# Altium schematic symbol library dungvh03-CERN_Connectors.SchLib: 576 symbols (part 1 of 8)
Pins are listed as number, name and electrical type; pins without a type are passive.

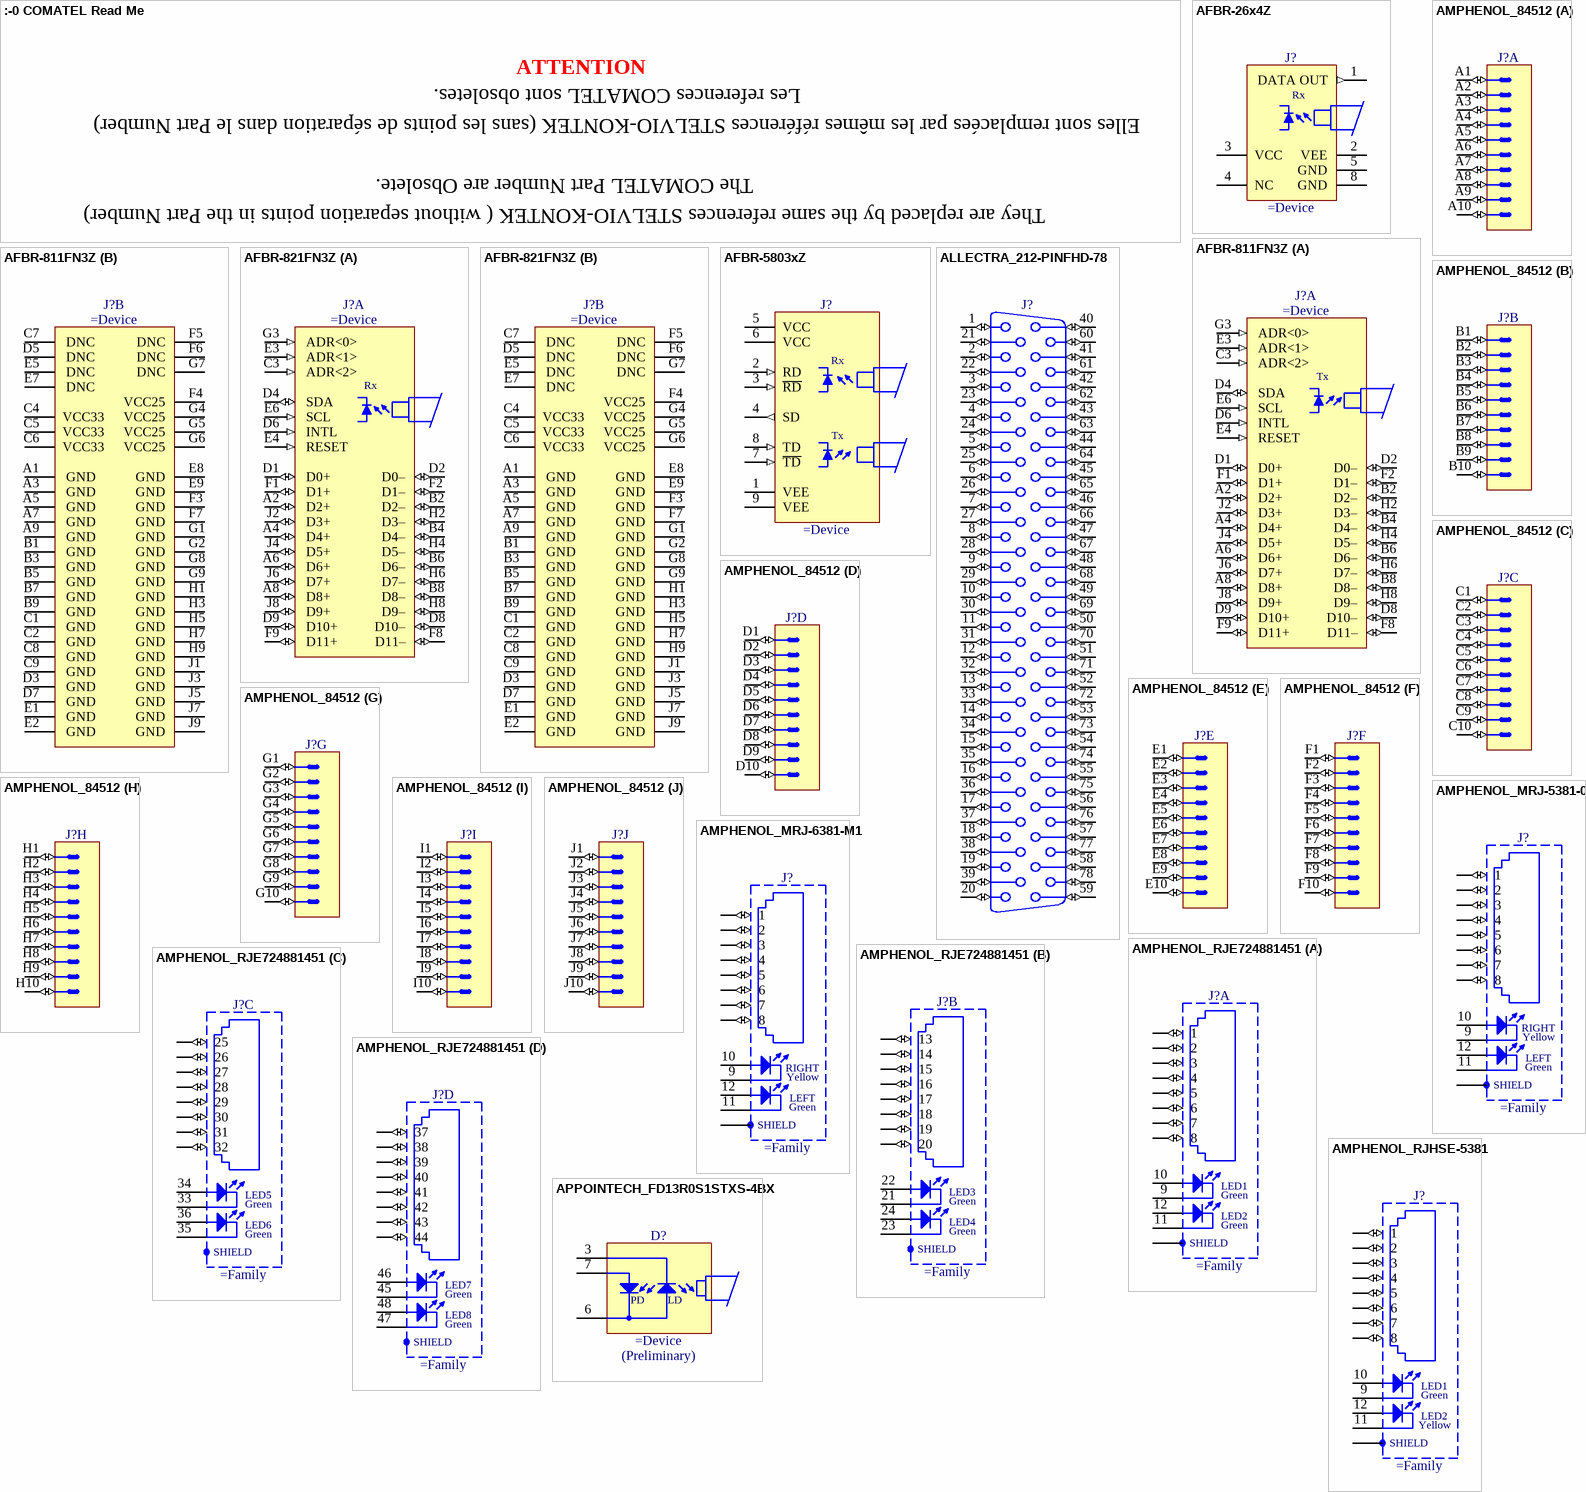
[diagram p0: symbols :-0 COMATEL Read Me to APPOINTECH_FD13R0S1STXS-4BX]

## :-0 COMATEL Read Me
designator ATTENTION
Test Point
text: Les references COMATEL sont obsoletes.; Elles sont remplacées par les mêmes références STELVIO-KONTEK (sans les points de séparation dans le Part Number); The COMATEL Part Number are Obsolete.; They are replaced by the same references STELVIO-KONTEK ( without separation points in the Part Number)

## AFBR-26x4Z
designator J?
DC-50MBd Versatile Link Fiber Optic Receiver for 1 mm POF and 200 µm PCS
pins: 1 DATA OUT (out), 2 VEE (power), 3 VCC (power), 4 NC, 5 GND (power), 8 GND (power)
text: Rx

## AFBR-811FN3Z
designator J?
HFBR-0500Z Series, Fiber Optic Transmitter
part A pins: A2  D2+ (io), A4  D4+ (io), A6  D6+ (io), A8  D8+ (io), B2 D2– (io), B4 D4– (io), B6 D6– (io), B8 D8– (io), C3  ADR<2> (in), D1  D0+ (io), D2 D0– (io), D4  SDA (io), D6  INTL (in), D8 D10– (io), D9  D10+ (io), E3  ADR<1> (in), E4  RESET (in), E6  SCL (in), F1  D1+ (io), F2 D1– (io), F8 D11– (io), F9  D11+ (io), G3  ADR<0> (in), H2 D3– (io), H4 D5– (io), H6 D7– (io), H8 D9– (io), J2  D3+ (io), J4  D5+ (io), J6  D7+ (io), J8  D9+ (io)
part B pins: A1  GND (power), A3  GND (power), A5  GND (power), A7  GND (power), A9  GND (power), B1  GND (power), B3  GND (power), B5  GND (power), B7  GND (power), B9  GND (power), C1  GND (power), C2  GND (power), C4 VCC33 (power), C5 VCC33 (power), C6 VCC33 (power), C7  DNC, C8  GND (power), C9  GND (power), D3  GND (power), D5  DNC, D7  GND (power), E1  GND (power), E2  GND (power), E5  DNC, E7  DNC, E8  GND (power), E9  GND (power), F3  GND (power), F4 VCC25 (power), F5  DNC, F6  DNC, F7  GND (power), G1  GND (power), G2  GND (power), G4 VCC25 (power), G5 VCC25 (power), G6 VCC25 (power), G7  DNC, G8  GND (power), G9  GND (power), H1  GND (power), H3  GND (power), H5  GND (power), H7  GND (power), H9  GND (power), J1  GND (power), J3  GND (power), J5  GND (power), J7  GND (power), J9  GND (power)
part A text: Tx

## AFBR-821FN3Z
designator J?
10 Gbps/Channel, 850 nm Fiber Optic Receiver AFBR-821XX3Z Series
part A pins: A2  D2+ (io), A4  D4+ (io), A6  D6+ (io), A8  D8+ (io), B2 D2– (io), B4 D4– (io), B6 D6– (io), B8 D8– (io), C3  ADR<2> (in), D1  D0+ (io), D2 D0– (io), D4  SDA (io), D6  INTL (in), D8 D10– (io), D9  D10+ (io), E3  ADR<1> (in), E4  RESET (in), E6  SCL (in), F1  D1+ (io), F2 D1– (io), F8 D11– (io), F9  D11+ (io), G3  ADR<0> (in), H2 D3– (io), H4 D5– (io), H6 D7– (io), H8 D9– (io), J2  D3+ (io), J4  D5+ (io), J6  D7+ (io), J8  D9+ (io)
part B pins: A1  GND (power), A3  GND (power), A5  GND (power), A7  GND (power), A9  GND (power), B1  GND (power), B3  GND (power), B5  GND (power), B7  GND (power), B9  GND (power), C1  GND (power), C2  GND (power), C4 VCC33 (power), C5 VCC33 (power), C6 VCC33 (power), C7  DNC, C8  GND (power), C9  GND (power), D3  GND (power), D5  DNC, D7  GND (power), E1  GND (power), E2  GND (power), E5  DNC, E7  DNC, E8  GND (power), E9  GND (power), F3  GND (power), F4 VCC25 (power), F5  DNC, F6  DNC, F7  GND (power), G1  GND (power), G2  GND (power), G4 VCC25 (power), G5 VCC25 (power), G6 VCC25 (power), G7  DNC, G8  GND (power), G9  GND (power), H1  GND (power), H3  GND (power), H5  GND (power), H7  GND (power), H9  GND (power), J1  GND (power), J3  GND (power), J5  GND (power), J7  GND (power), J9  GND (power)
part A text: Rx

## AFBR-5803xZ
designator J?
AFBR-5800Z Series, FDDI, 100 Mb/s ATM, Fast Ethernet Transceivers
pins: 1 VEE (power), 2 RD (in), 3 ~{RD} (in), 4 SD (out), 5 VCC (power), 6 VCC (power), 7 ~{TD} (in), 8 TD (in), 9 VEE (power)
text: Rx; Tx

## ALLECTRA_212-PINFHD-78
designator J?
Connector D-sub 78 Female
pins: 1 (io), 2 (io), 3 (io), 4 (io), 5 (io), 6 (io), 7 (io), 8 (io), 9 (io), 10 (io), 11 (io), 12 (io), 13 (io), 14 (io), 15 (io), 16 (io), 17 (io), 18 (io), 19 (io), 20 (io), 21 (io), 22 (io), 23 (io), 24 (io), 25 (io), 26 (io), 27 (io), 28 (io), 29 (io), 30 (io), 31 (io), 32 (io), 33 (io), 34 (io), 35 (io), 36 (io), 37 (io), 38 (io), 39 (io), 40 (io), 41 (io), 42 (io), 43 (io), 44 (io), 45 (io), 46 (io), 47 (io), 48 (io), 49 (io), 50 (io), 51 (io), 52 (io), 53 (io), 54 (io), 55 (io), 56 (io), 57 (io), 58 (io), 59 (io), 60 (io), 61 (io), 62 (io), 63 (io), 64 (io), 65 (io), 66 (io), 67 (io), 68 (io), 69 (io), 70 (io), 71 (io), 72 (io), 73 (io), 74 (io), 75 (io), 76 (io), 77 (io), 78 (io)

## AMPHENOL_84512
designator J?
100 Contacts, MEG-Array 10x10 BGA Connector
part A pins: A1 (io), A2 (io), A3 (io), A4 (io), A5 (io), A6 (io), A7 (io), A8 (io), A9 (io), A10 (io)
part B pins: B1 (io), B2 (io), B3 (io), B4 (io), B5 (io), B6 (io), B7 (io), B8 (io), B9 (io), B10 (io)
part C pins: C1 (io), C2 (io), C3 (io), C4 (io), C5 (io), C6 (io), C7 (io), C8 (io), C9 (io), C10 (io)
part D pins: D1 1 (io), D2 2 (io), D3 3 (io), D4 4 (io), D5 5 (io), D6 6 (io), D7 7 (io), D8 8 (io), D9 b9 (io), D10 b10 (io)
part E pins: E1 (io), E2 (io), E3 (io), E4 (io), E5 (io), E6 (io), E7 (io), E8 (io), E9 (io), E10 (io)
part F pins: F1 (io), F2 (io), F3 (io), F4 (io), F5 (io), F6 (io), F7 (io), F8 (io), F9 (io), F10 (io)
part G pins: G1 (io), G2 (io), G3 (io), G4 (io), G5 (io), G6 (io), G7 (io), G8 (io), G9 (io), G10 (io)
part H pins: H1 (io), H2 (io), H3 (io), H4 (io), H5 (io), H6 (io), H7 (io), H8 (io), H9 (io), H10 (io)
part I pins: I1 (io), I2 (io), I3 (io), I4 (io), I5 (io), I6 (io), I7 (io), I8 (io), I9 (io), I10 (io)
part J pins: J1 (io), J2 (io), J3 (io), J4 (io), J5 (io), J6 (io), J7 (io), J8 (io), J9 (io), J10 (io)

## AMPHENOL_MRJ-5381-01
designator J?
1 Port, 8 Positions, CAT5 RJ45 Modular Connector With Yellow And Green LEDs
pins: 1 (io), 2 (io), 3 (io), 4 (io), 5 (io), 6 (io), 7 (io), 8 (io), 9 CLED1, 10 ALED1, 11 CLED2, 12 ALED2, SHIELD
text: RIGHT; Yellow; LEFT; Green

## AMPHENOL_MRJ-6381-M1
designator J?
1 Port, 8 Contacts, Dust Tight Waterproof IP67, Right Angle CAT5 Filtered RJ45 Modular Jack With Yellow And Green LEDs, Series MRJ
pins: 1 (io), 2 (io), 3 (io), 4 (io), 5 (io), 6 (io), 7 (io), 8 (io), 9 CLED1, 10 ALED1, 11 CLED2, 12 ALED2, SHIELD
text: RIGHT; Yellow; LEFT; Green

## AMPHENOL_RJE724881451
designator J?
4 Port, 8 Positions, RJ45 With Shield And Green/Green Leds
part A pins: 1 (io), 2 (io), 3 (io), 4 (io), 5 (io), 6 (io), 7 (io), 8 (io), 9 CLED1, 10 ALED1, 11 CLED2, 12 ALED2, SHIELD
part B pins: 13 (io), 14 (io), 15 (io), 16 (io), 17 (io), 18 (io), 19 (io), 20 (io), 21 CLED3, 22 ALED3, 23 CLED4, 24 ALED4
part C pins: 25 (io), 26 (io), 27 (io), 28 (io), 29 (io), 30 (io), 31 (io), 32 (io), 33 CLED5, 34 ALED5, 35 CLED6, 36 ALED6
part D pins: 37 (io), 38 (io), 39 (io), 40 (io), 41 (io), 42 (io), 43 (io), 44 (io), 45 CLED7, 46 ALED7, 47 CLED8, 48 ALED8
part A text: LED1; Green; LED2
part B text: LED3; Green; LED4
part C text: LED5; Green; LED6
part D text: LED7; Green; LED8

## AMPHENOL_RJHSE-5381
designator J?
1 Port, 8 Positions, CAT5 RJ45 Modular Connector With Yellow And Green LEDs
pins: 1 (io), 2 (io), 3 (io), 4 (io), 5 (io), 6 (io), 7 (io), 8 (io), 9 CLED1, 10 ALED1, 11 ALED2, 12 CLED2, SHIELD
text: LED1; Green; LED2; Yellow

## APPOINTECH_FD13R0S1STXS-4BX
designator D?
1310nm FP Laser Diode SM Module (Sugar Cube ST Receptacle)
pins: 3 LDC, 6 LDPDAC, 7 PDA
text: PD; LD; (Preliminary)

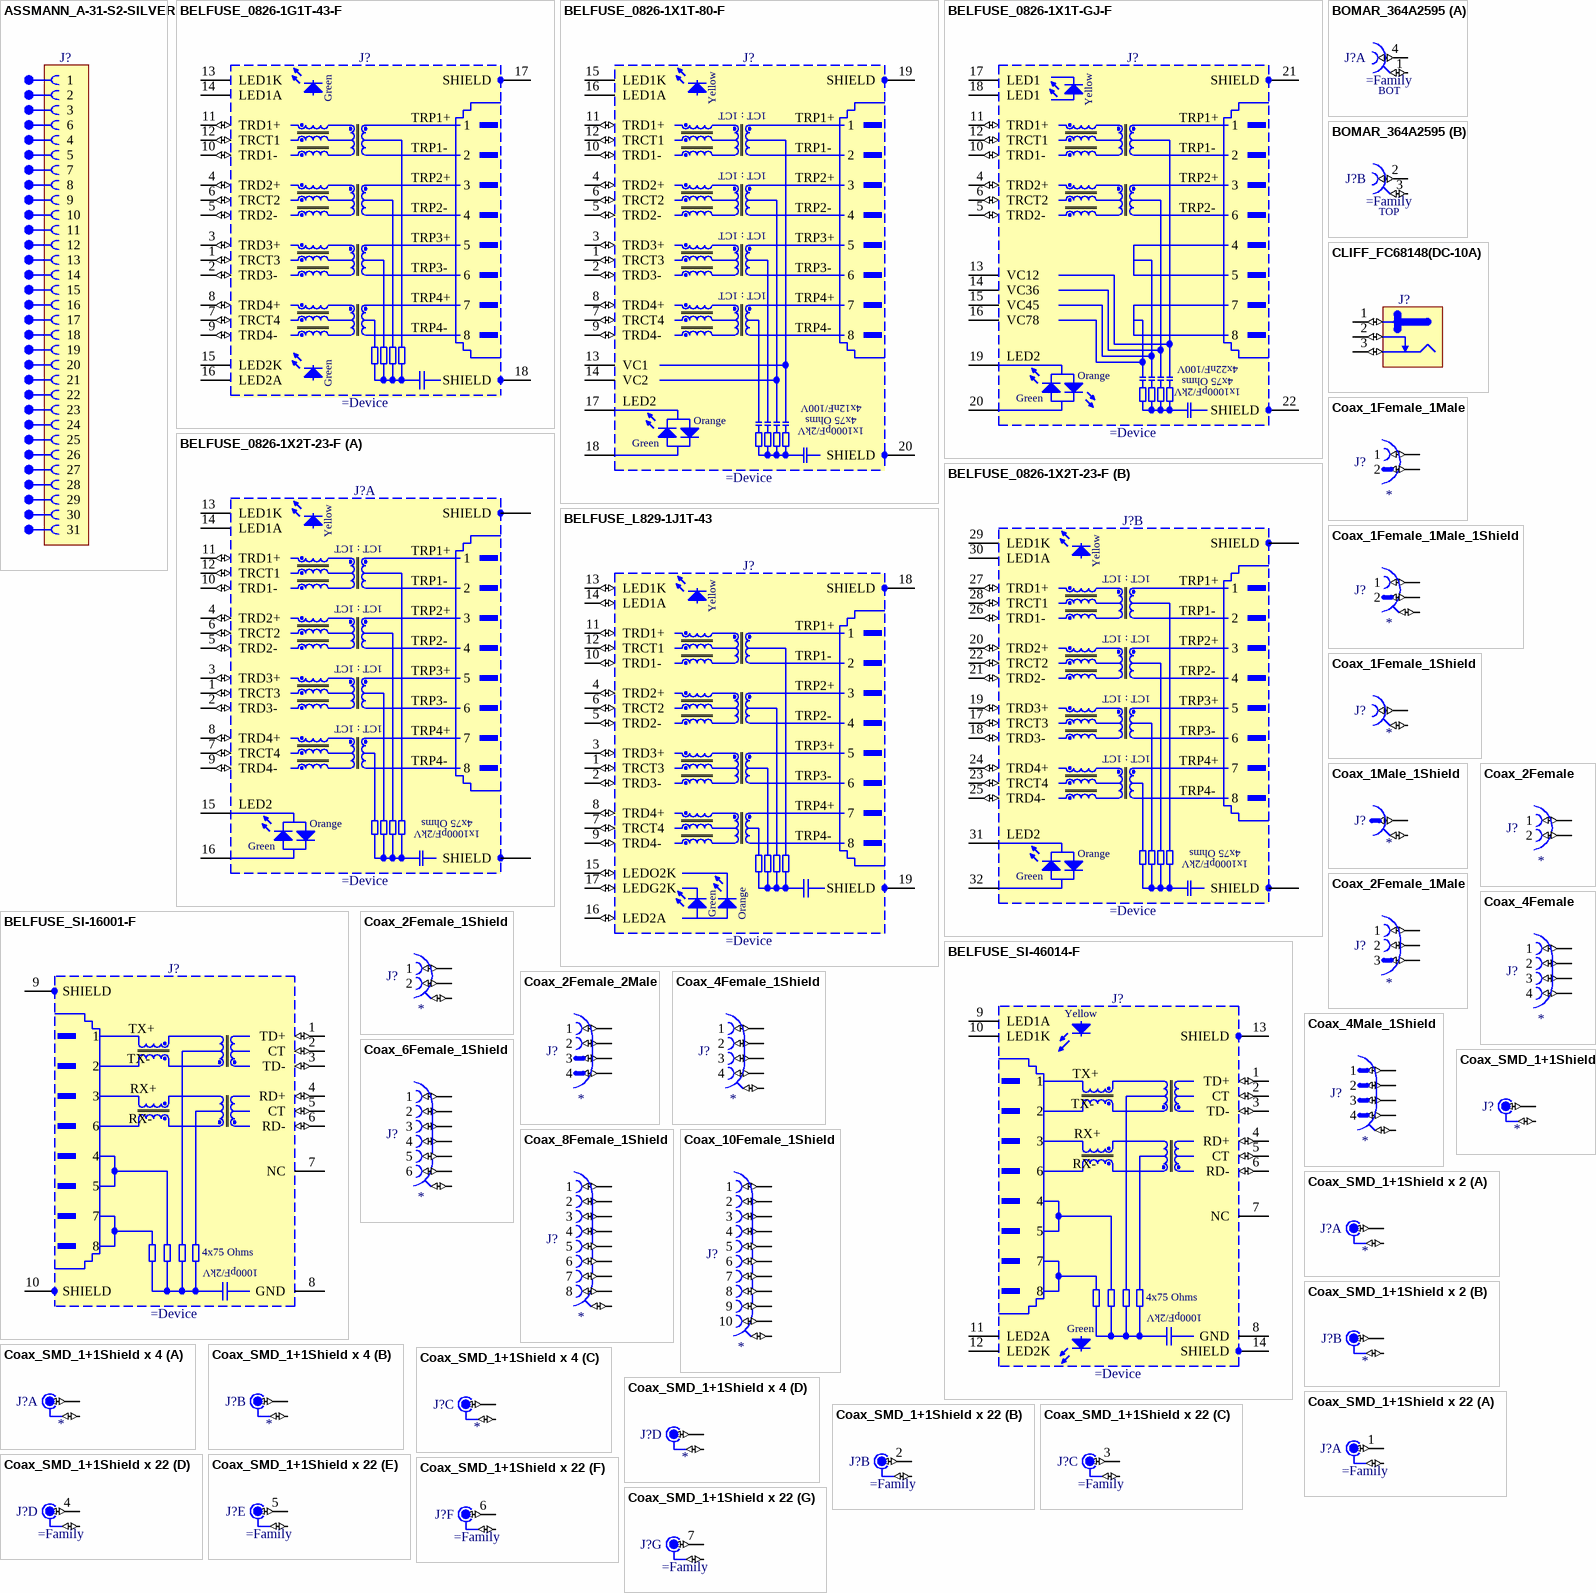
[diagram p1: symbols ASSMANN_A-31-S2-SILVER to Coax_SMD_1+1Shield x 22]

## ASSMANN_A-31-S2-SILVER
designator J?
text: 1; 2; 3; 6; 4; 5; 7; 8; 9; 10; 11; 12; 13; 14; 15; 16; 17; 18; 19; 20; 21; 22; 23; 24; 25; 26; 27; 28; 29; 30; 31

## BELFUSE_0826-1G1T-43-F
designator J?
1 Port, Green/Green LEDs, RJ45 10/100/1000 Gigabit Ethernet, MagJack Connector Module
pins: 1 TRCT3 (io), 2 TRD3- (io), 3 TRD3+ (io), 4 TRD2+ (io), 5 TRD2- (io), 6 TRCT2 (io), 7 TRCT4 (io), 8 TRD4+ (io), 9 TRD4- (io), 10 TRD1- (io), 11 TRD1+ (io), 12 TRCT1 (io), 13 LED1K, 14 LED1A, 15 LED2K, 16 LED2A, 17 SHIELD (power), 18 SHIELD (power)
text: Green; TRP1+; TRP1-; TRP2+; TRP2-; TRP3+; TRP3-; TRP4+; TRP4-

## BELFUSE_0826-1X1T-80-F
designator J?
MagJack 1000BaseT, PoE+, 1X1, OG/Y, Tab Up, RoHS
pins: 1 TRCT3 (io), 2 TRD3- (io), 3 TRD3+ (io), 4 TRD2+ (io), 5 TRD2- (io), 6 TRCT2 (io), 7 TRCT4 (io), 8 TRD4+ (io), 9 TRD4- (io), 10 TRD1- (io), 11 TRD1+ (io), 12 TRCT1 (io), 13 VC1, 14 VC2, 15 LED1K, 16 LED1A, 17 LED2, 18 LED2, 19 SHIELD (power), 20 SHIELD (power)
text: Yellow; 1CT : 1CT; TRP1+; TRP1-; TRP2+; TRP2-; TRP3+; TRP3-; TRP4+; TRP4-; 4x12nF/100V; Orange; 4x75 Ohms; 1x1000pF/2kV; Green

## BELFUSE_0826-1X1T-GJ-F
designator J?
MagJack 10/100BaseT, PoE+, 1X1, OG/Y, -40 to 85*C, Tab Up, RoHS
pins: 4 TRD2+ (io), 5 TRD2- (io), 6 TRCT2 (io), 10 TRD1- (io), 11 TRD1+ (io), 12 TRCT1 (io), 13 VC12, 14 VC36, 15 VC45, 16 VC78, 17 LED1, 18 LED1, 19 LED2, 20 LED2, 21 SHIELD (power), 22 SHIELD (power)
text: Yellow; TRP1+; 1; TRP1-; 2; TRP2+; 3; TRP2-; 7; 8; Orange; 4x22nF/100V; 4x75 Ohms; Green; 1x1000pF/2kV

## BELFUSE_0826-1X2T-23-F
designator J?
MagJack 1000BaseT, 1X2, OG/Y, Tab Up, RoHS
pins on every part: SHIELD (power), SHIELD (power)
part A pins: 1 TRCT3 (io), 2 TRD3- (io), 3 TRD3+ (io), 4 TRD2+ (io), 5 TRD2- (io), 6 TRCT2 (io), 7 TRCT4 (io), 8 TRD4+ (io), 9 TRD4- (io), 10 TRD1- (io), 11 TRD1+ (io), 12 TRCT1 (io), 13 LED1K, 14 LED1A, 15 LED2, 16 LED2
part B pins: 17 TRCT3 (io), 18 TRD3- (io), 19 TRD3+ (io), 20 TRD2+ (io), 21 TRD2- (io), 22 TRCT2 (io), 23 TRCT4 (io), 24 TRD4+ (io), 25 TRD4- (io), 26 TRD1- (io), 27 TRD1+ (io), 28 TRCT1 (io), 29 LED1K, 30 LED1A, 31 LED2, 32 LED2
part A text: Yellow; 1CT : 1CT; TRP1+; TRP1-; TRP2+; TRP2-; TRP3+; TRP3-; TRP4+; TRP4-; Orange; 4x75 Ohms; 1x1000pF/2kV; Green
part B text: Yellow; 1CT : 1CT; TRP1+; TRP1-; TRP2+; TRP2-; TRP3+; TRP3-; TRP4+; TRP4-; Orange; 4x75 Ohms; 1x1000pF/2kV; Green

## BELFUSE_L829-1J1T-43
designator J?
1 Port, RJ45, Gigabit Ethernet, MagJack Connector Module With Yellow And Green/Orange LEDs
pins: 1 TRCT3 (io), 2 TRD3- (io), 3 TRD3+ (io), 4 TRD2+ (io), 5 TRD2- (io), 6 TRCT2 (io), 7 TRCT4 (io), 8 TRD4+ (io), 9 TRD4- (io), 10 TRD1- (io), 11 TRD1+ (io), 12 TRCT1 (io), 13 LED1K (io), 14 LED1A (io), 15 LEDO2K (io), 16 LED2A (io), 17 LEDG2K (io), 18 SHIELD (power), 19 SHIELD (power)
text: Yellow; TRP1+; TRP1-; TRP2+; TRP2-; TRP3+; TRP3-; TRP4+; TRP4-; Green; Orange

## BELFUSE_SI-16001-F
designator J?
1 Port, Without LED, RJ45 10/100Base-T Ethernet, MagJack® Vertical Connector Module
pins: 1 TD+ (io), 2 CT (io), 3 TD- (io), 4 RD+ (io), 5 CT (io), 6 RD- (io), 7 NC, 8 GND (power), 9 SHIELD (power), 10 SHIELD (power)
text: TX+; TX-; RX+; RX-; 4x75 Ohms; 1000pF/2kV

## BELFUSE_SI-46014-F
designator J?
1 Port, Yellow/ Green LEDs, RJ45 10/100Base-T Ethernet, MagJack® Vertical Connector Module
pins: 1 TD+ (io), 2 CT (io), 3 TD- (io), 4 RD+ (io), 5 CT (io), 6 RD- (io), 7 NC, 8 GND (power), 9 LED1A, 10 LED1K, 11 LED2A, 12 LED2K, 13 SHIELD (power), 14 SHIELD (power)
text: Yellow; TX+; TX-; RX+; RX-; 4x75 Ohms; 1000pF/2kV; Green

## BOMAR_364A2595
designator J?
Dual Right Angle 50 Ohm BNC Jack, White Valox Case
part A pins: 1 (io), 4 (io)
part B pins: 2 (io), 3 (io)
part A text: BOT
part B text: TOP

## CLIFF_FC68148(DC-10A)
designator J?
12V /  5A, 2.1mm Diameter Pin, DC Power Socket With  Switch. DC10A Type
pins: 1 (io), 2 (io), 3 (io)

## Coax_1Female_1Male
designator J?
Coax_1Female_1Male (No Shield)
pins: 1 (io), 2 (io)

## Coax_1Female_1Male_1Shield
designator J?
pins: 1 (io), 2 (io), 3 (io)

## Coax_1Female_1Shield
designator J?
pins: 1 (io), 2 (io)

## Coax_1Male_1Shield
designator J?
pins: 1 (io), 2 (io)

## Coax_2Female
designator J?
Coax_2Female (No Shield)
pins: 1 (io), 2 (io)

## Coax_2Female_1Male
designator J?
pins: 1 (io), 2 (io), 3 (io)

## Coax_2Female_1Shield
designator J?
pins: 1 (io), 2 (io), 3 (io)

## Coax_2Female_2Male
designator J?
pins: 1 (io), 2 (io), 3 (io), 4 (io)

## Coax_4Female
designator J?
Coax_4Female (No Shield)
pins: 1 (io), 2 (io), 3 (io), 4 (io)

## Coax_4Female_1Shield
designator J?
pins: 1 (io), 2 (io), 3 (io), 4 (io), 5 (io)

## Coax_4Male_1Shield
designator J?
pins: 1 (io), 2 (io), 3 (io), 4 (io), 5 (io)

## Coax_6Female_1Shield
designator J?
Coax 6 Contacts Female + 1 Shield
pins: 1 (io), 2 (io), 3 (io), 4 (io), 5 (io), 6 (io), 7 (io)

## Coax_8Female_1Shield
designator J?
pins: 1 (io), 2 (io), 3 (io), 4 (io), 5 (io), 6 (io), 7 (io), 8 (io), 9 (io)

## Coax_10Female_1Shield
designator J?
pins: 1 (io), 2 (io), 3 (io), 4 (io), 5 (io), 6 (io), 7 (io), 8 (io), 9 (io), 10 (io), 11 (io)

## Coax_SMD_1+1Shield
designator J?
pins: 1 (io), 2 (io)

## Coax_SMD_1+1Shield x 2
designator J?
part A pins: 1 (io), 2 (io)
part B pins: 3 (io), 4 (io)

## Coax_SMD_1+1Shield x 4
designator J?
part A pins: 1 (io), 2 (io)
part B pins: 3 (io), 4 (io)
part C pins: 5 (io), 6 (io)
part D pins: 7 (io), 8 (io)

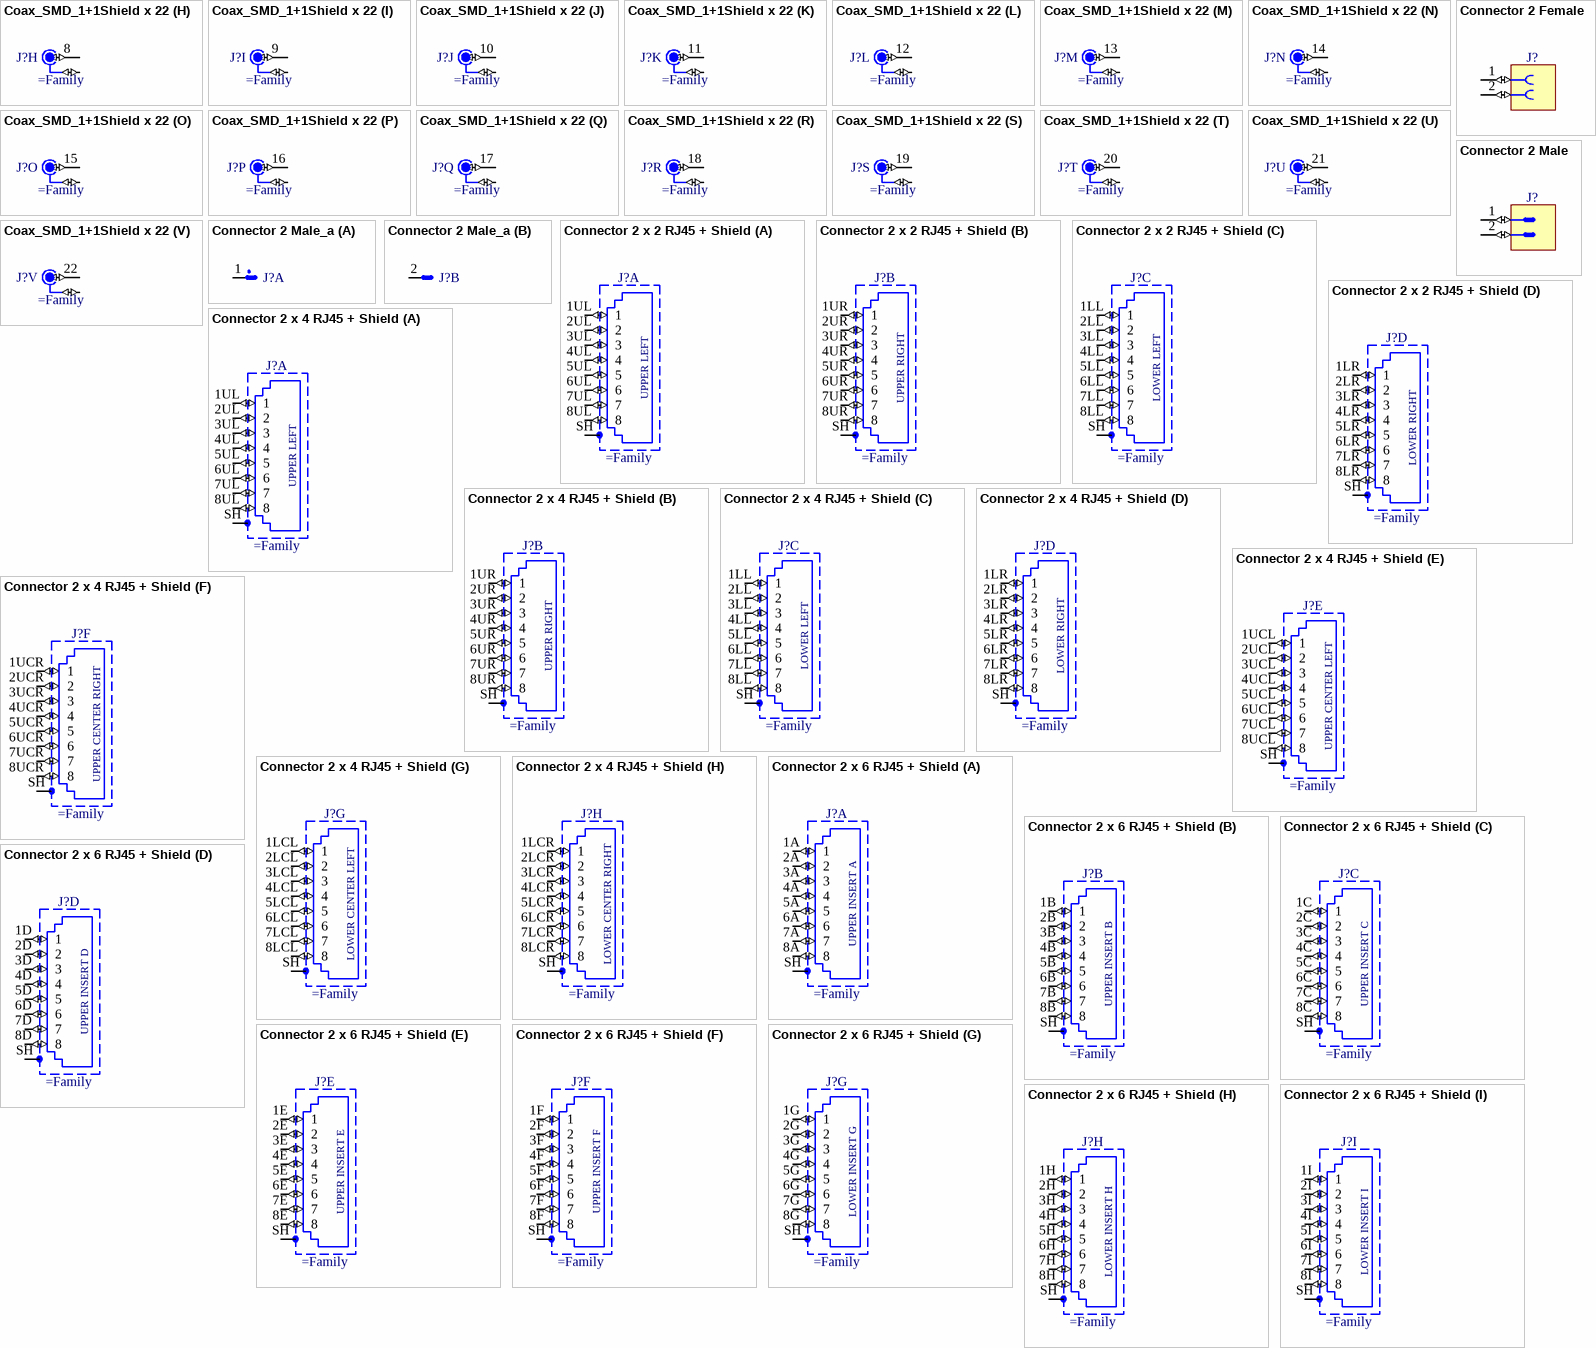
[diagram p2: symbols Coax_SMD_1+1Shield x 22 to Connector 2 x 6 RJ45 + Shield]

## Coax_SMD_1+1Shield x 22
designator J?
part A pins: 1 (io), G1 (io)
part B pins: 2 (io), G2 (io)
part C pins: 3 (io), G3 (io)
part D pins: 4 (io), G4 (io)
part E pins: 5 (io), G5 (io)
part F pins: 6 (io), G6 (io)
part G pins: 7 (io), G7 (io)
part H pins: 8 (io), G8 (io)
part I pins: 9 (io), G9 (io)
part J pins: 10 (io), G10 (io)
part K pins: 11 (io), G11 (io)
part L pins: 12 (io), G12 (io)
part M pins: 13 (io), G13 (io)
part N pins: 14 (io), G14 (io)
part O pins: 15 (io), G15 (io)
part P pins: 16 (io), G16 (io)
part Q pins: 17 (io), G17 (io)
part R pins: 18 (io), G18 (io)
part S pins: 19 (io), G19 (io)
part T pins: 20 (io), G20 (io)
part U pins: 21 (io), G21 (io)
part V pins: 22 (io), G22 (io)

## Connector 2 Female
designator J?
Connector 2 Female
pins: 1 (io), 2 (io)
1 alternate drawing of the same symbol

## Connector 2 Male
designator J?
Connector 2 Male
pins: 1 (io), 2 (io)
1 alternate drawing of the same symbol

## Connector 2 Male_a
designator J?
Connector 2 Male
part A pins: 1 (io)
part B pins: 2 (io)

## Connector 2 x 2 RJ45 + Shield
designator J?
Connector 2 x 2 RJ45 + Shield
pins on every part: SH 1
part A pins: 1UL 1 (io), 2UL 2 (io), 3UL 3 (io), 4UL 4 (io), 5UL 5 (io), 6UL 6 (io), 7UL 7 (io), 8UL 8 (io)
part B pins: 1UR 1 (io), 2UR 2 (io), 3UR 3 (io), 4UR 4 (io), 5UR 5 (io), 6UR 6 (io), 7UR 7 (io), 8UR 8 (io)
part C pins: 1LL 1 (io), 2LL 2 (io), 3LL 3 (io), 4LL 4 (io), 5LL 5 (io), 6LL 6 (io), 7LL 7 (io), 8LL 8 (io)
part D pins: 1LR 1 (io), 2LR 2 (io), 3LR 3 (io), 4LR 4 (io), 5LR 5 (io), 6LR 6 (io), 7LR 7 (io), 8LR 8 (io)
part A text: UPPER LEFT
part B text: UPPER RIGHT
part C text: LOWER LEFT
part D text: LOWER RIGHT

## Connector 2 x 4 RJ45 + Shield
designator J?
Connector 2 x 4 RJ45 + Shield
pins on every part: SH 1
part A pins: 1UL 1 (io), 2UL 2 (io), 3UL 3 (io), 4UL 4 (io), 5UL 5 (io), 6UL 6 (io), 7UL 7 (io), 8UL 8 (io)
part B pins: 1UR 1 (io), 2UR 2 (io), 3UR 3 (io), 4UR 4 (io), 5UR 5 (io), 6UR 6 (io), 7UR 7 (io), 8UR 8 (io)
part C pins: 1LL 1 (io), 2LL 2 (io), 3LL 3 (io), 4LL 4 (io), 5LL 5 (io), 6LL 6 (io), 7LL 7 (io), 8LL 8 (io)
part D pins: 1LR 1 (io), 2LR 2 (io), 3LR 3 (io), 4LR 4 (io), 5LR 5 (io), 6LR 6 (io), 7LR 7 (io), 8LR 8 (io)
part E pins: 1UCL 1 (io), 2UCL 2 (io), 3UCL 3 (io), 4UCL 4 (io), 5UCL 5 (io), 6UCL 6 (io), 7UCL 7 (io), 8UCL 8 (io)
part F pins: 1UCR 1 (io), 2UCR 2 (io), 3UCR 3 (io), 4UCR 4 (io), 5UCR 5 (io), 6UCR 6 (io), 7UCR 7 (io), 8UCR 8 (io)
part G pins: 1LCL 1 (io), 2LCL 2 (io), 3LCL 3 (io), 4LCL 4 (io), 5LCL 5 (io), 6LCL 6 (io), 7LCL 7 (io), 8LCL 8 (io)
part H pins: 1LCR 1 (io), 2LCR 2 (io), 3LCR 3 (io), 4LCR 4 (io), 5LCR 5 (io), 6LCR 6 (io), 7LCR 7 (io), 8LCR 8 (io)
part A text: UPPER LEFT
part B text: UPPER RIGHT
part C text: LOWER LEFT
part D text: LOWER RIGHT
part E text: UPPER CENTER LEFT
part F text: UPPER CENTER RIGHT
part G text: LOWER CENTER LEFT
part H text: LOWER CENTER RIGHT

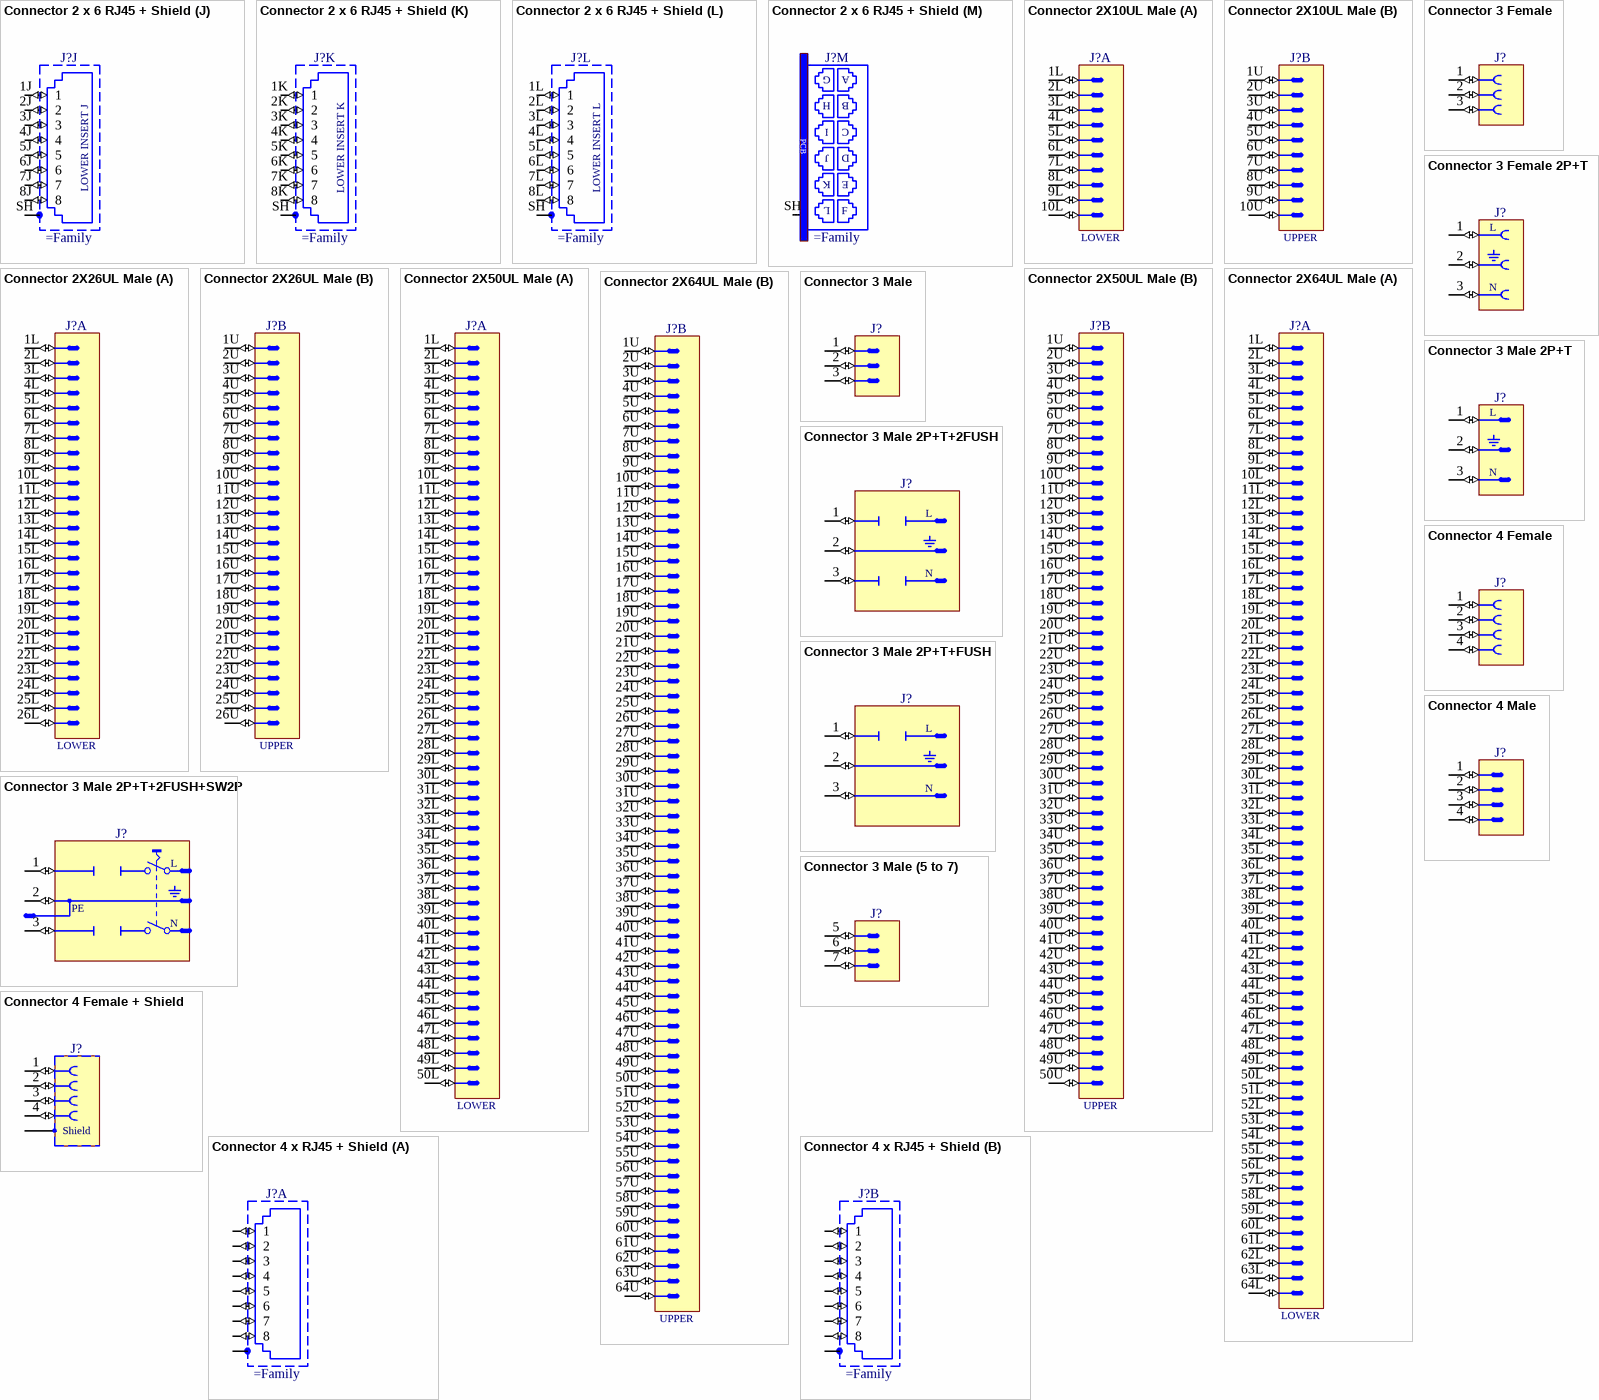
[diagram p3: symbols Connector 2 x 6 RJ45 + Shield to Connector 4 x RJ45 + Shield]

## Connector 2 x 6 RJ45 + Shield
designator J?
Connector 2 x 6 RJ45 + Shield
pins on every part: SH 1
part A pins: 1A 1 (io), 2A 2 (io), 3A 3 (io), 4A 4 (io), 5A 5 (io), 6A 6 (io), 7A 7 (io), 8A 8 (io)
part B pins: 1B 1 (io), 2B 2 (io), 3B 3 (io), 4B 4 (io), 5B 5 (io), 6B 6 (io), 7B 7 (io), 8B 8 (io)
part C pins: 1C 1 (io), 2C 2 (io), 3C 3 (io), 4C 4 (io), 5C 5 (io), 6C 6 (io), 7C 7 (io), 8C 8 (io)
part D pins: 1D 1 (io), 2D 2 (io), 3D 3 (io), 4D 4 (io), 5D 5 (io), 6D 6 (io), 7D 7 (io), 8D 8 (io)
part E pins: 1E 1 (io), 2E 2 (io), 3E 3 (io), 4E 4 (io), 5E 5 (io), 6E 6 (io), 7E 7 (io), 8E 8 (io)
part F pins: 1F 1 (io), 2F 2 (io), 3F 3 (io), 4F 4 (io), 5F 5 (io), 6F 6 (io), 7F 7 (io), 8F 8 (io)
part G pins: 1G 1 (io), 2G 2 (io), 3G 3 (io), 4G 4 (io), 5G 5 (io), 6G 6 (io), 7G 7 (io), 8G 8 (io)
part H pins: 1H 1 (io), 2H 2 (io), 3H 3 (io), 4H 4 (io), 5H 5 (io), 6H 6 (io), 7H 7 (io), 8H 8 (io)
part I pins: 1I 1 (io), 2I 2 (io), 3I 3 (io), 4I 4 (io), 5I 5 (io), 6I 6 (io), 7I 7 (io), 8I 8 (io)
part J pins: 1J 1 (io), 2J 2 (io), 3J 3 (io), 4J 4 (io), 5J 5 (io), 6J 6 (io), 7J 7 (io), 8J 8 (io)
part K pins: 1K 1 (io), 2K 2 (io), 3K 3 (io), 4K 4 (io), 5K 5 (io), 6K 6 (io), 7K 7 (io), 8K 8 (io)
part L pins: 1L 1 (io), 2L 2 (io), 3L 3 (io), 4L 4 (io), 5L 5 (io), 6L 6 (io), 7L 7 (io), 8L 8 (io)
part A text: UPPER INSERT A
part B text: UPPER INSERT B
part C text: UPPER INSERT C
part D text: UPPER INSERT D
part E text: UPPER INSERT E
part F text: UPPER INSERT F
part G text: LOWER INSERT G
part H text: LOWER INSERT H
part I text: LOWER INSERT I
part J text: LOWER INSERT J
part K text: LOWER INSERT K
part L text: LOWER INSERT L
part M text: G; A; H; B; I; C; PCB; J; D; K; E; L; F

## Connector 2X10UL Male
designator J?
Dual Stacked 10 Contact Male Connector
part A pins: 1L (io), 2L (io), 3L (io), 4L (io), 5L (io), 6L (io), 7L (io), 8L (io), 9L (io), 10L (io)
part B pins: 1U (io), 2U (io), 3U (io), 4U (io), 5U (io), 6U (io), 7U (io), 8U (io), 9U (io), 10U (io)
part A text: LOWER
part B text: UPPER

## Connector 2X26UL Male
designator J?
Dual Stacked 26 Contact Male Connector
part A pins: 1L (io), 2L (io), 3L (io), 4L (io), 5L (io), 6L (io), 7L (io), 8L (io), 9L (io), 10L (io), 11L (io), 12L (io), 13L (io), 14L (io), 15L (io), 16L (io), 17L (io), 18L (io), 19L (io), 20L (io), 21L (io), 22L (io), 23L (io), 24L (io), 25L (io), 26L (io)
part B pins: 1U (io), 2U (io), 3U (io), 4U (io), 5U (io), 6U (io), 7U (io), 8U (io), 9U (io), 10U (io), 11U (io), 12U (io), 13U (io), 14U (io), 15U (io), 16U (io), 17U (io), 18U (io), 19U (io), 20U (io), 21U (io), 22U (io), 23U (io), 24U (io), 25U (io), 26U (io)
part A text: LOWER
part B text: UPPER

## Connector 2X50UL Male
designator J?
Dual Stacked 50 Contact Male Connector
part A pins: 1L (io), 2L (io), 3L (io), 4L (io), 5L (io), 6L (io), 7L (io), 8L (io), 9L (io), 10L (io), 11L (io), 12L (io), 13L (io), 14L (io), 15L (io), 16L (io), 17L (io), 18L (io), 19L (io), 20L (io), 21L (io), 22L (io), 23L (io), 24L (io), 25L (io), 26L (io), 27L (io), 28L (io), 29L (io), 30L (io), 31L (io), 32L (io), 33L (io), 34L (io), 35L (io), 36L (io), 37L (io), 38L (io), 39L (io), 40L (io), 41L (io), 42L (io), 43L (io), 44L (io), 45L (io), 46L (io), 47L (io), 48L (io), 49L (io), 50L (io)
part B pins: 1U (io), 2U (io), 3U (io), 4U (io), 5U (io), 6U (io), 7U (io), 8U (io), 9U (io), 10U (io), 11U (io), 12U (io), 13U (io), 14U (io), 15U (io), 16U (io), 17U (io), 18U (io), 19U (io), 20U (io), 21U (io), 22U (io), 23U (io), 24U (io), 25U (io), 26U (io), 27U (io), 28U (io), 29U (io), 30U (io), 31U (io), 32U (io), 33U (io), 34U (io), 35U (io), 36U (io), 37U (io), 38U (io), 39U (io), 40U (io), 41U (io), 42U (io), 43U (io), 44U (io), 45U (io), 46U (io), 47U (io), 48U (io), 49U (io), 50U (io)
part A text: LOWER
part B text: UPPER

## Connector 2X64UL Male
designator J?
Dual Stacked 64 Contact Male Connector
part A pins: 1L (io), 2L (io), 3L (io), 4L (io), 5L (io), 6L (io), 7L (io), 8L (io), 9L (io), 10L (io), 11L (io), 12L (io), 13L (io), 14L (io), 15L (io), 16L (io), 17L (io), 18L (io), 19L (io), 20L (io), 21L (io), 22L (io), 23L (io), 24L (io), 25L (io), 26L (io), 27L (io), 28L (io), 29L (io), 30L (io), 31L (io), 32L (io), 33L (io), 34L (io), 35L (io), 36L (io), 37L (io), 38L (io), 39L (io), 40L (io), 41L (io), 42L (io), 43L (io), 44L (io), 45L (io), 46L (io), 47L (io), 48L (io), 49L (io), 50L (io), 51L (io), 52L (io), 53L (io), 54L (io), 55L (io), 56L (io), 57L (io), 58L (io), 59L (io), 60L (io), 61L (io), 62L (io), 63L (io), 64L (io)
part B pins: 1U (io), 2U (io), 3U (io), 4U (io), 5U (io), 6U (io), 7U (io), 8U (io), 9U (io), 10U (io), 11U (io), 12U (io), 13U (io), 14U (io), 15U (io), 16U (io), 17U (io), 18U (io), 19U (io), 20U (io), 21U (io), 22U (io), 23U (io), 24U (io), 25U (io), 26U (io), 27U (io), 28U (io), 29U (io), 30U (io), 31U (io), 32U (io), 33U (io), 34U (io), 35U (io), 36U (io), 37U (io), 38U (io), 39U (io), 40U (io), 41U (io), 42U (io), 43U (io), 44U (io), 45U (io), 46U (io), 47U (io), 48U (io), 49U (io), 50U (io), 51U (io), 52U (io), 53U (io), 54U (io), 55U (io), 56U (io), 57U (io), 58U (io), 59U (io), 60U (io), 61U (io), 62U (io), 63U (io), 64U (io)
part A text: LOWER
part B text: UPPER

## Connector 3 Female
designator J?
Connector 3 Female
pins: 1 (io), 2 (io), 3 (io)
1 alternate drawing of the same symbol

## Connector 3 Female 2P+T
designator J?
Connector 3 Female 2P+T
pins: 1 (io), 2 (io), 3 (io)
text: L; N

## Connector 3 Male
designator J?
Connector 3 Male
pins: 1 (io), 2 (io), 3 (io)
1 alternate drawing of the same symbol

## Connector 3 Male 2P+T
designator J?
Connector 3 Male 2P+T
pins: 1 (io), 2 (io), 3 (io)
text: L; N

## Connector 3 Male 2P+T+2FUSH
designator J?
Connector 3 Male 2P+ 2 Fuse Holder
pins: 1 (io), 2 (io), 3 (io)
text: L; N

## Connector 3 Male 2P+T+2FUSH+SW2P
designator J?
Connector 3 Male 2P+ 2 Fuse Holder + Line Switch 2 Poles
pins: 1 (io), 2 (io), 3 (io)
text: L; PE; N

## Connector 3 Male 2P+T+FUSH
designator J?
Connector 3 Male 2P+ Fuse Holder
pins: 1 (io), 2 (io), 3 (io)
text: L; N

## Connector 3 Male (5 to 7)
designator J?
Connector 3 Male
pins: 5 (io), 6 (io), 7 (io)

## Connector 4 Female
designator J?
Connector 4 Female
pins: 1 (io), 2 (io), 3 (io), 4 (io)
1 alternate drawing of the same symbol

## Connector 4 Female + Shield
designator J?
40 Contacts, 5 Rows (a,b,c,d,e) of 8 positions + 4 Shield Contacts, Pitch 2 mm,  Press-Fit, Right Angle Ermet B8 CompactPCI Express Female Connector
pins: 1 (io), 2 (io), 3 (io), 4 (io), SHIELD
text: Shield

## Connector 4 Male
designator J?
Connector 4 Male
pins: 1 (io), 2 (io), 3 (io), 4 (io)
1 alternate drawing of the same symbol

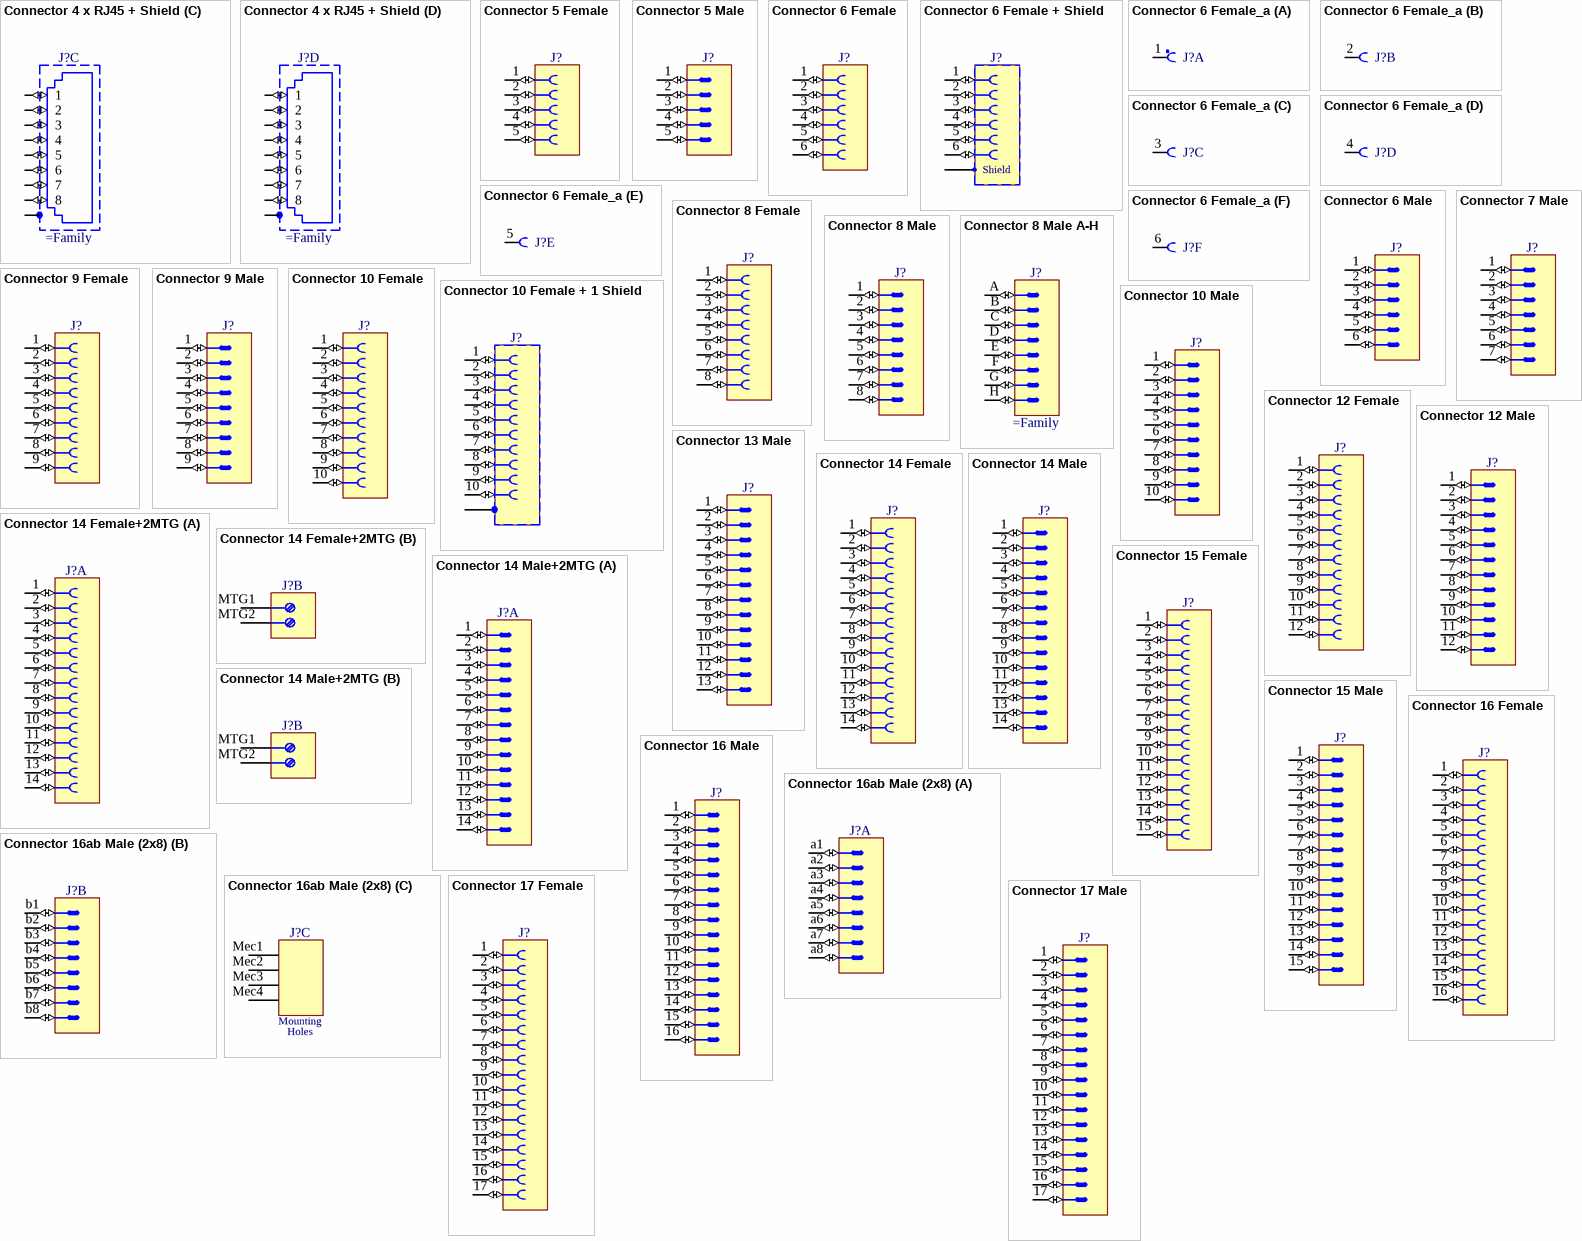
[diagram p4: symbols Connector 4 x RJ45 + Shield to Connector 17 Male]

## Connector 4 x RJ45 + Shield
designator J?
Connector 4 x RJ45 + Shield
pins on every part: SH 1
part A pins: 1A 1 (io), 2A 2 (io), 3A 3 (io), 4A 4 (io), 5A 5 (io), 6A 6 (io), 7A 7 (io), 8A 8 (io)
part B pins: 1B 1 (io), 2B 2 (io), 3B 3 (io), 4B 4 (io), 5B 5 (io), 6B 6 (io), 7B 7 (io), 8B 8 (io)
part C pins: 1C 1 (io), 2C 2 (io), 3C 3 (io), 4C 4 (io), 5C 5 (io), 6C 6 (io), 7C 7 (io), 8C 8 (io)
part D pins: 1D 1 (io), 2D 2 (io), 3D 3 (io), 4D 4 (io), 5D 5 (io), 6D 6 (io), 7D 7 (io), 8D 8 (io)

## Connector 5 Female
designator J?
Connector 5 Female
pins: 1 (io), 2 (io), 3 (io), 4 (io), 5 (io)
1 alternate drawing of the same symbol

## Connector 5 Male
designator J?
Connector 5 Male
pins: 1 (io), 2 (io), 3 (io), 4 (io), 5 (io)
1 alternate drawing of the same symbol

## Connector 6 Female
designator J?
Connector 6 Female
pins: 1 (io), 2 (io), 3 (io), 4 (io), 5 (io), 6 (io)
1 alternate drawing of the same symbol

## Connector 6 Female + Shield
designator J?
6 Contacts + 1 Shield
pins: 1 (io), 2 (io), 3 (io), 4 (io), 5 (io), 6 (io), SHIELD
text: Shield

## Connector 6 Female_a
designator J?
Connector 6 Female
part A pins: 1 (io)
part B pins: 2 (io)
part C pins: 3 (io)
part D pins: 4 (io)
part E pins: 5 (io)
part F pins: 6 (io)

## Connector 6 Male
designator J?
Connector 6 Male
pins: 1 (io), 2 (io), 3 (io), 4 (io), 5 (io), 6 (io)
1 alternate drawing of the same symbol

## Connector 7 Male
designator J?
Connector 7 Male
pins: 1 (io), 2 (io), 3 (io), 4 (io), 5 (io), 6 (io), 7 (io)
1 alternate drawing of the same symbol

## Connector 8 Female
designator J?
Connector 8 Female
pins: 1 (io), 2 (io), 3 (io), 4 (io), 5 (io), 6 (io), 7 (io), 8 (io)
1 alternate drawing of the same symbol

## Connector 8 Male
designator J?
Connector 8 Male
pins: 1 (io), 2 (io), 3 (io), 4 (io), 5 (io), 6 (io), 7 (io), 8 (io)
1 alternate drawing of the same symbol

## Connector 8 Male A-H
designator J?
Connector 8 Male A To H Contacts Numbering
pins: A (io), B (io), C (io), D (io), E (io), F (io), G (io), H (io)

## Connector 9 Female
designator J?
Connector 9 Female
pins: 1 (io), 2 (io), 3 (io), 4 (io), 5 (io), 6 (io), 7 (io), 8 (io), 9 (io)
1 alternate drawing of the same symbol

## Connector 9 Male
designator J?
Connector 9 Male
pins: 1 (io), 2 (io), 3 (io), 4 (io), 5 (io), 6 (io), 7 (io), 8 (io), 9 (io)
1 alternate drawing of the same symbol

## Connector 10 Female
designator J?
Connector 10 Female
pins: 1 (io), 2 (io), 3 (io), 4 (io), 5 (io), 6 (io), 7 (io), 8 (io), 9 (io), 10 (io)
1 alternate drawing of the same symbol

## Connector 10 Female + 1 Shield
designator J?
Connector 10 Female + 1 Shield
pins: 1 (io), 2 (io), 3 (io), 4 (io), 5 (io), 6 (io), 7 (io), 8 (io), 9 (io), 10 (io), SHIELD (power)
1 alternate drawing of the same symbol

## Connector 10 Male
designator J?
Connector 10 Male
pins: 1 (io), 2 (io), 3 (io), 4 (io), 5 (io), 6 (io), 7 (io), 8 (io), 9 (io), 10 (io)
1 alternate drawing of the same symbol

## Connector 12 Female
designator J?
Connector 12 Female
pins: 1 (io), 2 (io), 3 (io), 4 (io), 5 (io), 6 (io), 7 (io), 8 (io), 9 (io), 10 (io), 11 (io), 12 (io)
1 alternate drawing of the same symbol

## Connector 12 Male
designator J?
Connector 12 Male
pins: 1 (io), 2 (io), 3 (io), 4 (io), 5 (io), 6 (io), 7 (io), 8 (io), 9 (io), 10 (io), 11 (io), 12 (io)
1 alternate drawing of the same symbol

## Connector 13 Male
designator J?
Connector 13 Male
pins: 1 (io), 2 (io), 3 (io), 4 (io), 5 (io), 6 (io), 7 (io), 8 (io), 9 (io), 10 (io), 11 (io), 12 (io), 13 (io)
1 alternate drawing of the same symbol

## Connector 14 Female
designator J?
Connector 14 Female
pins: 1 (io), 2 (io), 3 (io), 4 (io), 5 (io), 6 (io), 7 (io), 8 (io), 9 (io), 10 (io), 11 (io), 12 (io), 13 (io), 14 (io)
1 alternate drawing of the same symbol

## Connector 14 Female+2MTG
designator J?
Connector 14 Female+2MTG
part A pins: 1 (io), 2 (io), 3 (io), 4 (io), 5 (io), 6 (io), 7 (io), 8 (io), 9 (io), 10 (io), 11 (io), 12 (io), 13 (io), 14 (io)
part B pins: MTG1 "Mounting Fixture", MTG2 "Mounting Fixture"
1 alternate drawing of the same symbol

## Connector 14 Male
designator J?
Connector 14 Male
pins: 1 (io), 2 (io), 3 (io), 4 (io), 5 (io), 6 (io), 7 (io), 8 (io), 9 (io), 10 (io), 11 (io), 12 (io), 13 (io), 14 (io)
1 alternate drawing of the same symbol

## Connector 14 Male+2MTG
designator J?
Connector 14 Male+2MTG
part A pins: 1 (io), 2 (io), 3 (io), 4 (io), 5 (io), 6 (io), 7 (io), 8 (io), 9 (io), 10 (io), 11 (io), 12 (io), 13 (io), 14 (io)
part B pins: MTG1 "Mounting Fixture", MTG2 "Mounting Fixture"
1 alternate drawing of the same symbol

## Connector 15 Female
designator J?
Connector 15 Female
pins: 1 (io), 2 (io), 3 (io), 4 (io), 5 (io), 6 (io), 7 (io), 8 (io), 9 (io), 10 (io), 11 (io), 12 (io), 13 (io), 14 (io), 15 (io)
1 alternate drawing of the same symbol

## Connector 15 Male
designator J?
Connector 15 Male
pins: 1 (io), 2 (io), 3 (io), 4 (io), 5 (io), 6 (io), 7 (io), 8 (io), 9 (io), 10 (io), 11 (io), 12 (io), 13 (io), 14 (io), 15 (io)
1 alternate drawing of the same symbol

## Connector 16 Female
designator J?
Connector 16 Female
pins: 1 (io), 2 (io), 3 (io), 4 (io), 5 (io), 6 (io), 7 (io), 8 (io), 9 (io), 10 (io), 11 (io), 12 (io), 13 (io), 14 (io), 15 (io), 16 (io)
1 alternate drawing of the same symbol

## Connector 16 Male
designator J?
Connector 16 Male
pins: 1 (io), 2 (io), 3 (io), 4 (io), 5 (io), 6 (io), 7 (io), 8 (io), 9 (io), 10 (io), 11 (io), 12 (io), 13 (io), 14 (io), 15 (io), 16 (io)
1 alternate drawing of the same symbol

## Connector 16ab Male (2x8)
designator J?
Connector 16ab Male (2x8)
part A pins: a1 1 (io), a2 2 (io), a3 3 (io), a4 4 (io), a5 5 (io), a6 6 (io), a7 7 (io), a8 8 (io)
part B pins: b1 1 (io), b2 2 (io), b3 3 (io), b4 4 (io), b5 5 (io), b6 6 (io), b7 7 (io), b8 8 (io)
part C pins: Mec1 "Mounting Fixture", Mec2 "Mounting Fixture", Mec3 "Mounting Fixture", Mec4 "Mounting Fixture"
part C text: Mounting; Holes

## Connector 17 Female
designator J?
Connector 17 Female
pins: 1 (io), 2 (io), 3 (io), 4 (io), 5 (io), 6 (io), 7 (io), 8 (io), 9 (io), 10 (io), 11 (io), 12 (io), 13 (io), 14 (io), 15 (io), 16 (io), 17 (io)
1 alternate drawing of the same symbol

## Connector 17 Male
designator J?
Connector 17 Male
pins: 1 (io), 2 (io), 3 (io), 4 (io), 5 (io), 6 (io), 7 (io), 8 (io), 9 (io), 10 (io), 11 (io), 12 (io), 13 (io), 14 (io), 15 (io), 16 (io), 17 (io)
1 alternate drawing of the same symbol

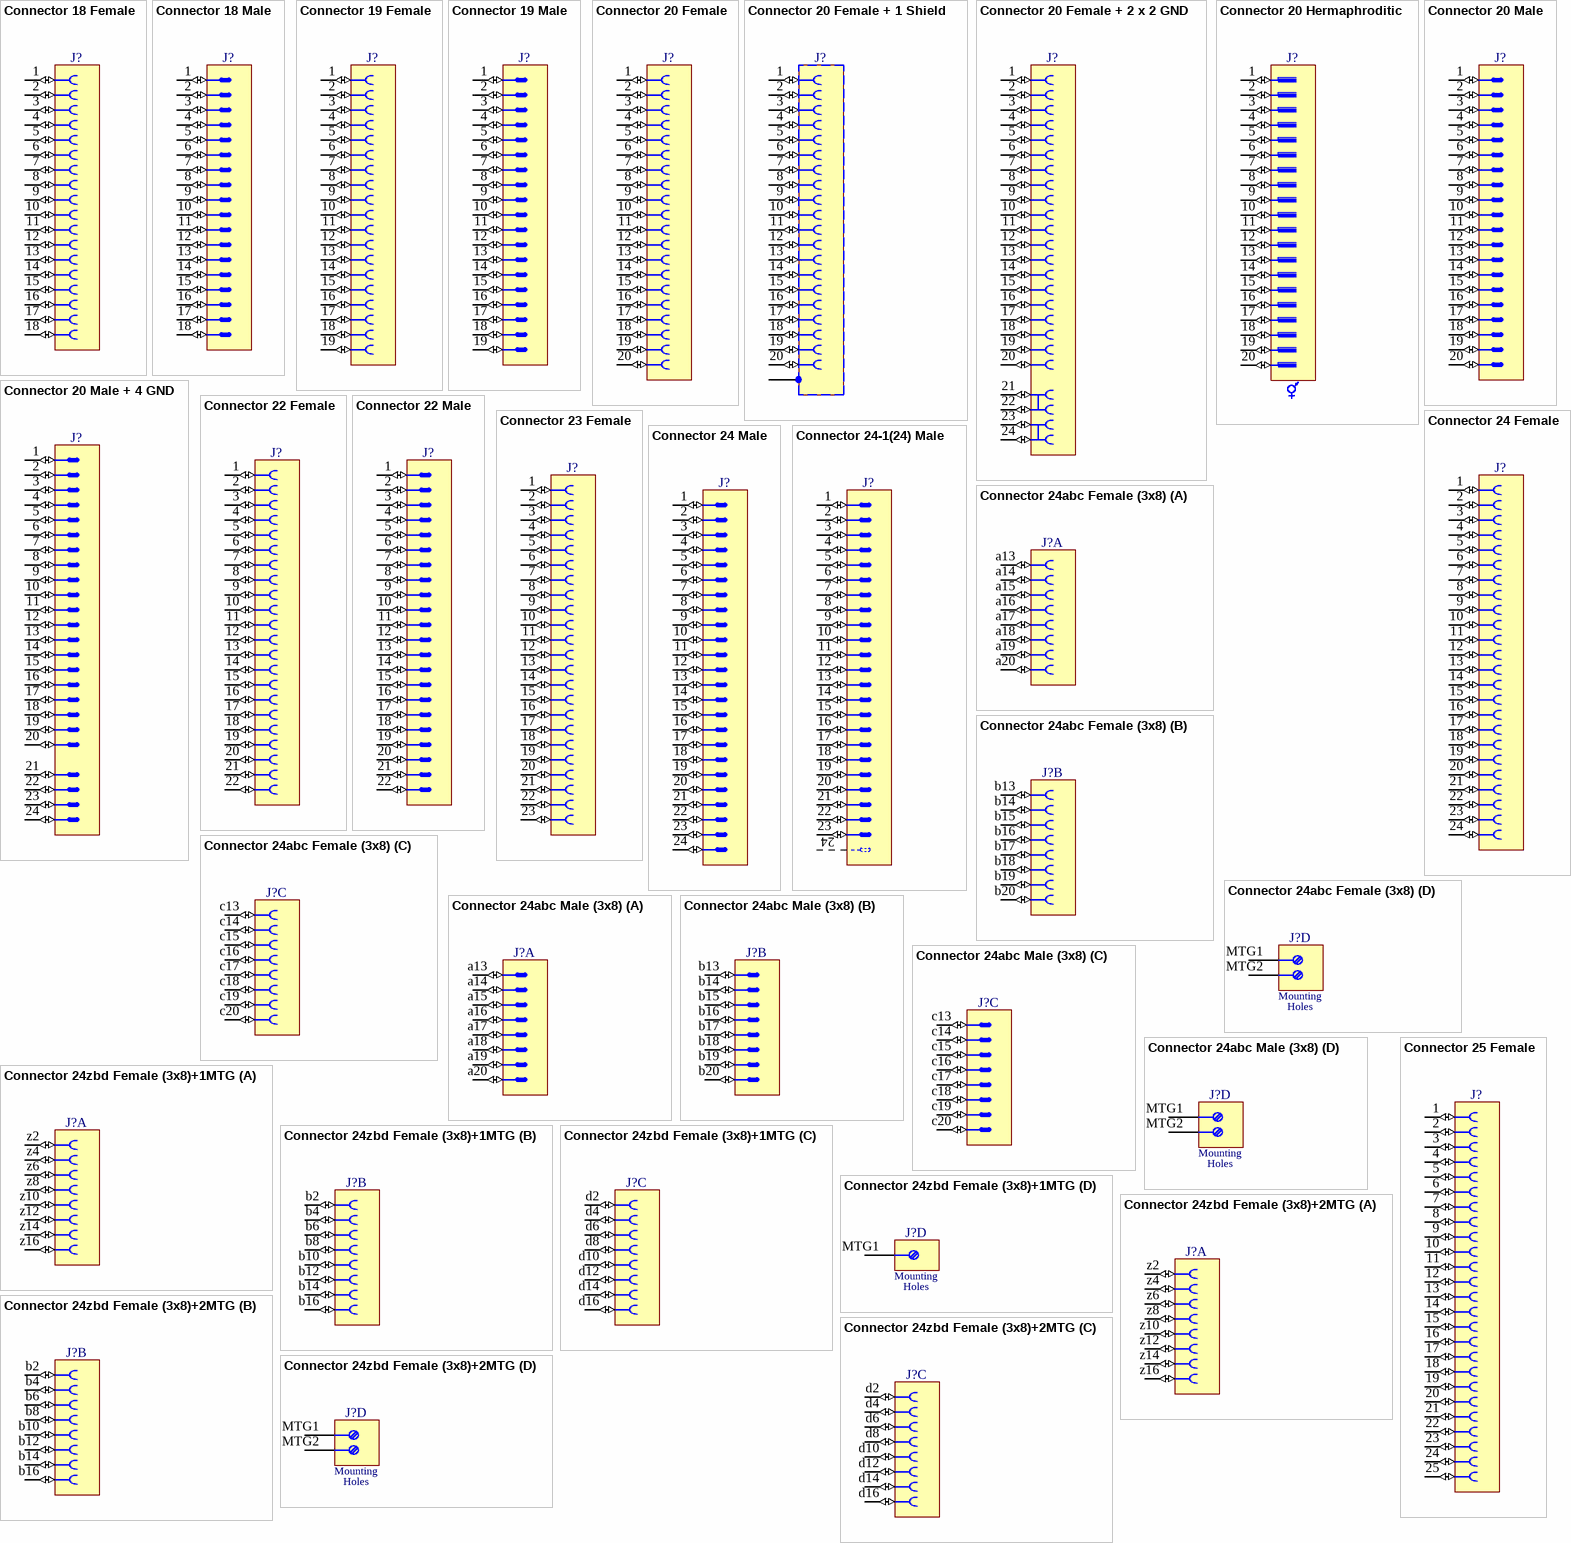
[diagram p5: symbols Connector 18 Female to Connector 25 Female]

## Connector 18 Female
designator J?
Connector 18 Female
pins: 1 (io), 2 (io), 3 (io), 4 (io), 5 (io), 6 (io), 7 (io), 8 (io), 9 (io), 10 (io), 11 (io), 12 (io), 13 (io), 14 (io), 15 (io), 16 (io), 17 (io), 18 (io)
1 alternate drawing of the same symbol

## Connector 18 Male
designator J?
Connector 18 Male
pins: 1 (io), 2 (io), 3 (io), 4 (io), 5 (io), 6 (io), 7 (io), 8 (io), 9 (io), 10 (io), 11 (io), 12 (io), 13 (io), 14 (io), 15 (io), 16 (io), 17 (io), 18 (io)
1 alternate drawing of the same symbol

## Connector 19 Female
designator J?
Connector 19 Female
pins: 1 (io), 2 (io), 3 (io), 4 (io), 5 (io), 6 (io), 7 (io), 8 (io), 9 (io), 10 (io), 11 (io), 12 (io), 13 (io), 14 (io), 15 (io), 16 (io), 17 (io), 18 (io), 19 (io)
1 alternate drawing of the same symbol

## Connector 19 Male
designator J?
Connector 19 Male
pins: 1 (io), 2 (io), 3 (io), 4 (io), 5 (io), 6 (io), 7 (io), 8 (io), 9 (io), 10 (io), 11 (io), 12 (io), 13 (io), 14 (io), 15 (io), 16 (io), 17 (io), 18 (io), 19 (io)
1 alternate drawing of the same symbol

## Connector 20 Female
designator J?
Connector 20 Female
pins: 1 (io), 2 (io), 3 (io), 4 (io), 5 (io), 6 (io), 7 (io), 8 (io), 9 (io), 10 (io), 11 (io), 12 (io), 13 (io), 14 (io), 15 (io), 16 (io), 17 (io), 18 (io), 19 (io), 20 (io)
1 alternate drawing of the same symbol

## Connector 20 Female + 1 Shield
designator J?
Connector 20 Female + 1 Shield
pins: 1 (io), 2 (io), 3 (io), 4 (io), 5 (io), 6 (io), 7 (io), 8 (io), 9 (io), 10 (io), 11 (io), 12 (io), 13 (io), 14 (io), 15 (io), 16 (io), 17 (io), 18 (io), 19 (io), 20 (io), SHIELD (power)
1 alternate drawing of the same symbol

## Connector 20 Female + 2 x 2 GND
designator J?
Connector 20 Female + 2 x 2 GND
pins: 1 (io), 2 (io), 3 (io), 4 (io), 5 (io), 6 (io), 7 (io), 8 (io), 9 (io), 10 (io), 11 (io), 12 (io), 13 (io), 14 (io), 15 (io), 16 (io), 17 (io), 18 (io), 19 (io), 20 (io), 21 (io), 22 (io), 23 (io), 24 (io)
1 alternate drawing of the same symbol

## Connector 20 Hermaphroditic
designator J?
Connector 20 Hermaphroditic
pins: 1 (io), 2 (io), 3 (io), 4 (io), 5 (io), 6 (io), 7 (io), 8 (io), 9 (io), 10 (io), 11 (io), 12 (io), 13 (io), 14 (io), 15 (io), 16 (io), 17 (io), 18 (io), 19 (io), 20 (io)
1 alternate drawing of the same symbol

## Connector 20 Male
designator J?
Connector 20 Male
pins: 1 (io), 2 (io), 3 (io), 4 (io), 5 (io), 6 (io), 7 (io), 8 (io), 9 (io), 10 (io), 11 (io), 12 (io), 13 (io), 14 (io), 15 (io), 16 (io), 17 (io), 18 (io), 19 (io), 20 (io)
1 alternate drawing of the same symbol

## Connector 20 Male + 4 GND
designator J?
Connector 20 Male + 4 GND
pins: 1 (io), 2 (io), 3 (io), 4 (io), 5 (io), 6 (io), 7 (io), 8 (io), 9 (io), 10 (io), 11 (io), 12 (io), 13 (io), 14 (io), 15 (io), 16 (io), 17 (io), 18 (io), 19 (io), 20 (io), 21 (io), 22 (io), 23 (io), 24 (io)
1 alternate drawing of the same symbol

## Connector 22 Female
designator J?
Connector 22 Female
pins: 1 (io), 2 (io), 3 (io), 4 (io), 5 (io), 6 (io), 7 (io), 8 (io), 9 (io), 10 (io), 11 (io), 12 (io), 13 (io), 14 (io), 15 (io), 16 (io), 17 (io), 18 (io), 19 (io), 20 (io), 21 (io), 22 (io)
1 alternate drawing of the same symbol

## Connector 22 Male
designator J?
Connector 20 Male
pins: 1 (io), 2 (io), 3 (io), 4 (io), 5 (io), 6 (io), 7 (io), 8 (io), 9 (io), 10 (io), 11 (io), 12 (io), 13 (io), 14 (io), 15 (io), 16 (io), 17 (io), 18 (io), 19 (io), 20 (io), 21 (io), 22 (io)
1 alternate drawing of the same symbol

## Connector 23 Female
designator J?
Connector 23 Female
pins: 1 (io), 2 (io), 3 (io), 4 (io), 5 (io), 6 (io), 7 (io), 8 (io), 9 (io), 10 (io), 11 (io), 12 (io), 13 (io), 14 (io), 15 (io), 16 (io), 17 (io), 18 (io), 19 (io), 20 (io), 21 (io), 22 (io), 23 (io)
1 alternate drawing of the same symbol

## Connector 24 Female
designator J?
Connector 24 Female
pins: 1 (io), 2 (io), 3 (io), 4 (io), 5 (io), 6 (io), 7 (io), 8 (io), 9 (io), 10 (io), 11 (io), 12 (io), 13 (io), 14 (io), 15 (io), 16 (io), 17 (io), 18 (io), 19 (io), 20 (io), 21 (io), 22 (io), 23 (io), 24 (io)
1 alternate drawing of the same symbol

## Connector 24 Male
designator J?
Connector 24 Male
pins: 1 (io), 2 (io), 3 (io), 4 (io), 5 (io), 6 (io), 7 (io), 8 (io), 9 (io), 10 (io), 11 (io), 12 (io), 13 (io), 14 (io), 15 (io), 16 (io), 17 (io), 18 (io), 19 (io), 20 (io), 21 (io), 22 (io), 23 (io), 24 (io)
1 alternate drawing of the same symbol

## Connector 24-1(24) Male
designator J?
Connector 24 Male With Polarized Position Number 24
pins: 1 (io), 2 (io), 3 (io), 4 (io), 5 (io), 6 (io), 7 (io), 8 (io), 9 (io), 10 (io), 11 (io), 12 (io), 13 (io), 14 (io), 15 (io), 16 (io), 17 (io), 18 (io), 19 (io), 20 (io), 21 (io), 22 (io), 23 (io)
1 alternate drawing of the same symbol
text: 24

## Connector 24abc Female (3x8)
designator J?
Connector 24abc Female (3x8)
part A pins: a13 (io), a14 (io), a15 (io), a16 (io), a17 (io), a18 (io), a19 (io), a20 (io)
part B pins: b13 (io), b14 (io), b15 (io), b16 (io), b17 (io), b18 (io), b19 (io), b20 (io)
part C pins: c13 (io), c14 (io), c15 (io), c16 (io), c17 (io), c18 (io), c19 (io), c20 (io)
part D pins: MTG1 "Mounting Fixture", MTG2 "Mounting Fixture"
part D text: Mounting; Holes

## Connector 24abc Male (3x8)
designator J?
Connector 24abc Male (3x8)
part A pins: a13 (io), a14 (io), a15 (io), a16 (io), a17 (io), a18 (io), a19 (io), a20 (io)
part B pins: b13 (io), b14 (io), b15 (io), b16 (io), b17 (io), b18 (io), b19 (io), b20 (io)
part C pins: c13 (io), c14 (io), c15 (io), c16 (io), c17 (io), c18 (io), c19 (io), c20 (io)
part D pins: MTG1 "Mounting Fixture", MTG2 "Mounting Fixture"
part D text: Mounting; Holes

## Connector 24zbd Female (3x8)+1MTG
designator J?
Connector 24zbd Female, DIN 41612 Type MH
part A pins: z2 (io), z4 (io), z6 (io), z8 (io), z10 (io), z12 (io), z14 (io), z16 (io)
part B pins: b2 (io), b4 (io), b6 (io), b8 (io), b10 (io), b12 (io), b14 (io), b16 (io)
part C pins: d2 (io), d4 (io), d6 (io), d8 (io), d10 (io), d12 (io), d14 (io), d16 (io)
part D pins: MTG1 "Mounting Fixture"
part D text: Mounting; Holes

## Connector 24zbd Female (3x8)+2MTG
designator J?
Connector 24zbd Female, DIN 41612 Type MH
part A pins: z2 (io), z4 (io), z6 (io), z8 (io), z10 (io), z12 (io), z14 (io), z16 (io)
part B pins: b2 (io), b4 (io), b6 (io), b8 (io), b10 (io), b12 (io), b14 (io), b16 (io)
part C pins: d2 (io), d4 (io), d6 (io), d8 (io), d10 (io), d12 (io), d14 (io), d16 (io)
part D pins: MTG1 "Mounting Fixture", MTG2 "Mounting Fixture"
part D text: Mounting; Holes

## Connector 25 Female
designator J?
Connector 25 Female
pins: 1 (io), 2 (io), 3 (io), 4 (io), 5 (io), 6 (io), 7 (io), 8 (io), 9 (io), 10 (io), 11 (io), 12 (io), 13 (io), 14 (io), 15 (io), 16 (io), 17 (io), 18 (io), 19 (io), 20 (io), 21 (io), 22 (io), 23 (io), 24 (io), 25 (io)
1 alternate drawing of the same symbol

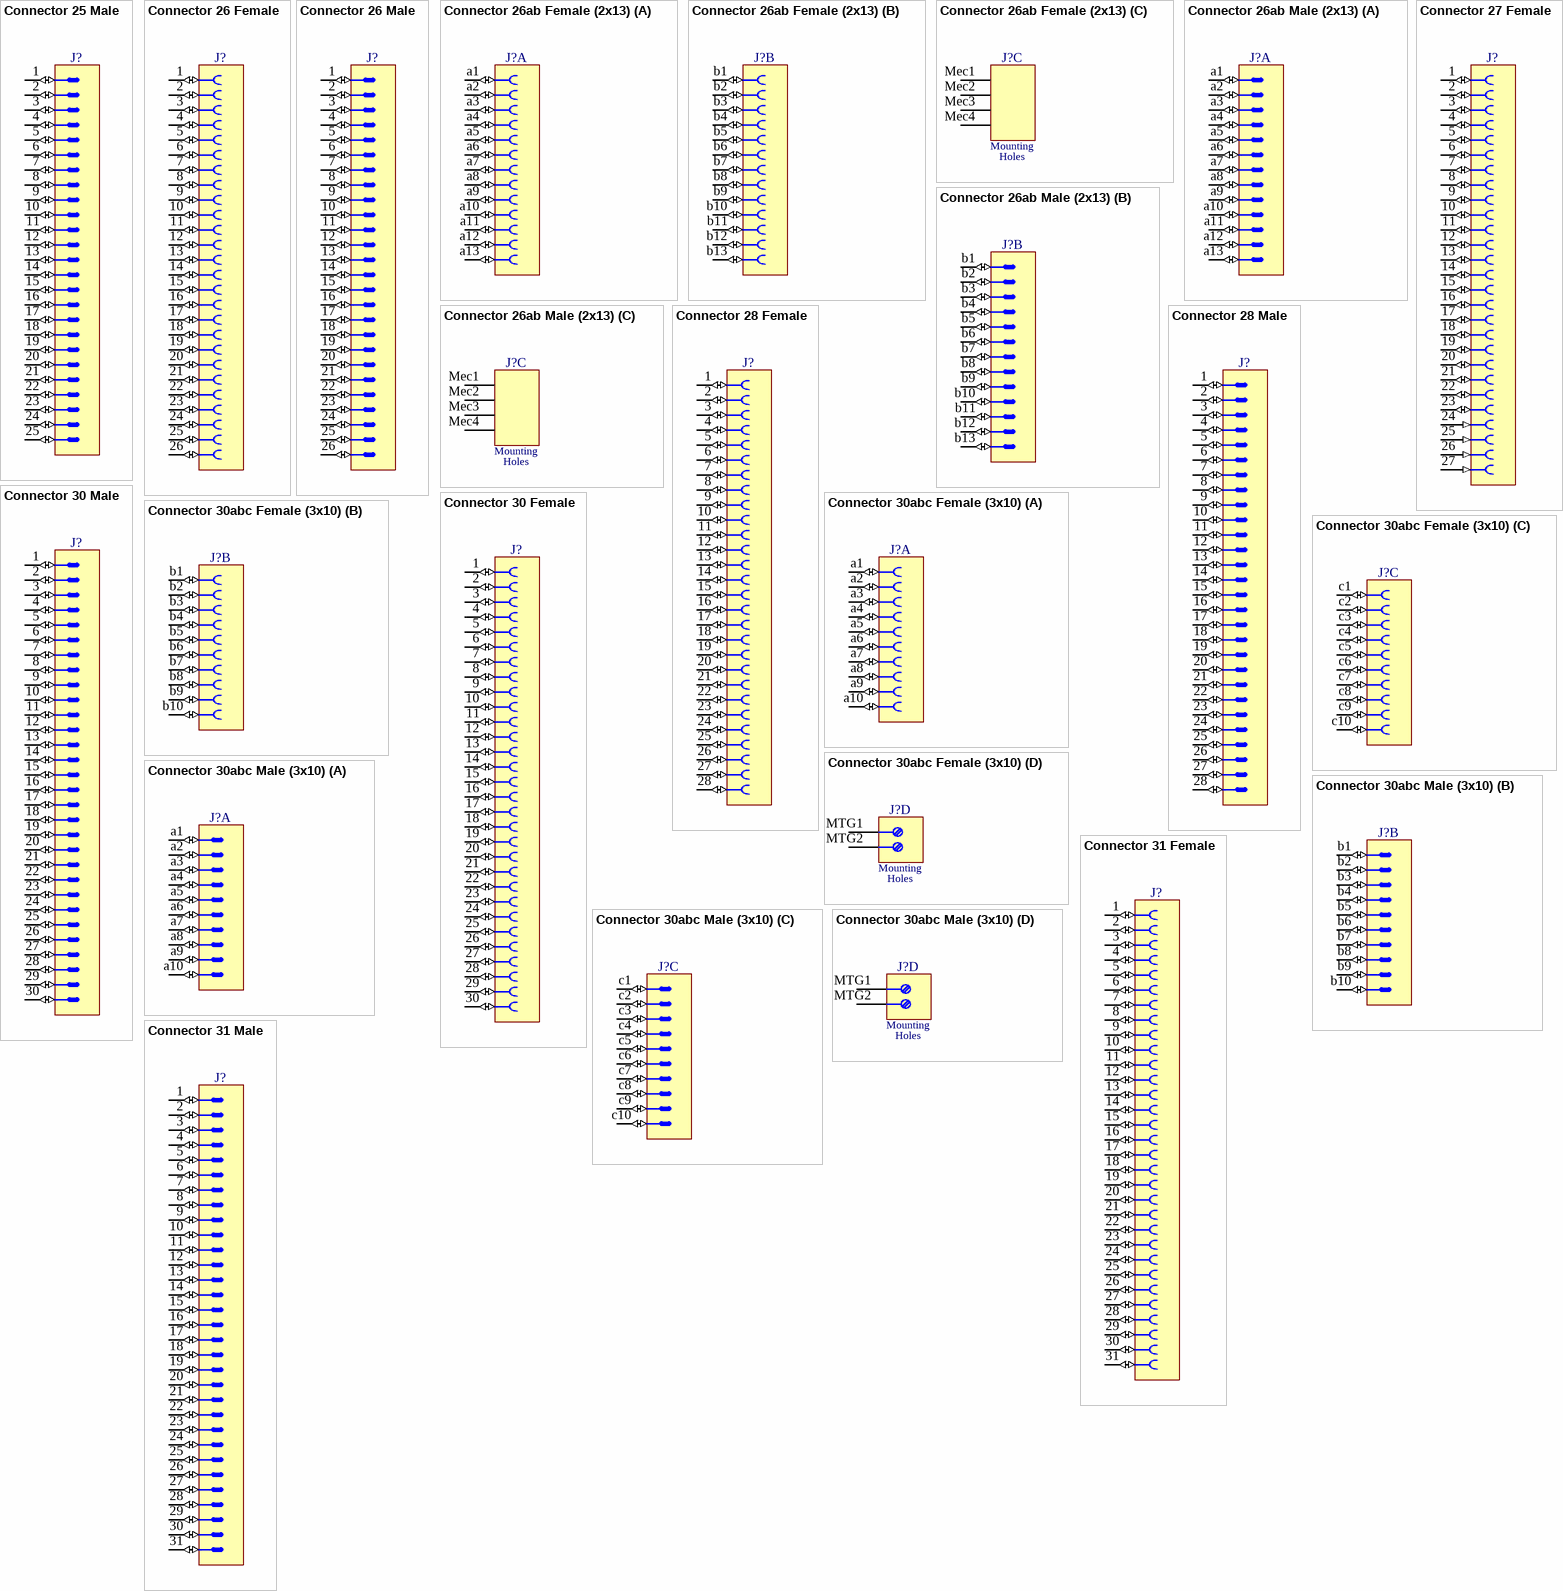
[diagram p6: symbols Connector 25 Male to Connector 31 Male]

## Connector 25 Male
designator J?
Connector 25 Male
pins: 1 (io), 2 (io), 3 (io), 4 (io), 5 (io), 6 (io), 7 (io), 8 (io), 9 (io), 10 (io), 11 (io), 12 (io), 13 (io), 14 (io), 15 (io), 16 (io), 17 (io), 18 (io), 19 (io), 20 (io), 21 (io), 22 (io), 23 (io), 24 (io), 25 (io)
1 alternate drawing of the same symbol

## Connector 26 Female
designator J?
Connector 26 Female
pins: 1 (io), 2 (io), 3 (io), 4 (io), 5 (io), 6 (io), 7 (io), 8 (io), 9 (io), 10 (io), 11 (io), 12 (io), 13 (io), 14 (io), 15 (io), 16 (io), 17 (io), 18 (io), 19 (io), 20 (io), 21 (io), 22 (io), 23 (io), 24 (io), 25 (io), 26 (io)
1 alternate drawing of the same symbol

## Connector 26 Male
designator J?
Connector 26 Male
pins: 1 (io), 2 (io), 3 (io), 4 (io), 5 (io), 6 (io), 7 (io), 8 (io), 9 (io), 10 (io), 11 (io), 12 (io), 13 (io), 14 (io), 15 (io), 16 (io), 17 (io), 18 (io), 19 (io), 20 (io), 21 (io), 22 (io), 23 (io), 24 (io), 25 (io), 26 (io)
1 alternate drawing of the same symbol

## Connector 26ab Female (2x13)
designator J?
Connector 26ab Female (2x13)
part A pins: a1 1 (io), a2 2 (io), a3 3 (io), a4 4 (io), a5 5 (io), a6 6 (io), a7 7 (io), a8 8 (io), a9 9 (io), a10 10 (io), a11 11 (io), a12 12 (io), a13 13 (io)
part B pins: b1 1 (io), b2 2 (io), b3 3 (io), b4 4 (io), b5 5 (io), b6 6 (io), b7 7 (io), b8 8 (io), b9 9 (io), b10 10 (io), b11 11 (io), b12 12 (io), b13 13 (io)
part C pins: Mec1 "Mounting Fixture", Mec2 "Mounting Fixture", Mec3 "Mounting Fixture", Mec4 "Mounting Fixture"
part C text: Mounting; Holes

## Connector 26ab Male (2x13)
designator J?
Connector 26ab Male (2x13)
part A pins: a1 1 (io), a2 2 (io), a3 3 (io), a4 4 (io), a5 5 (io), a6 6 (io), a7 7 (io), a8 8 (io), a9 9 (io), a10 10 (io), a11 11 (io), a12 12 (io), a13 13 (io)
part B pins: b1 1 (io), b2 2 (io), b3 3 (io), b4 4 (io), b5 5 (io), b6 6 (io), b7 7 (io), b8 8 (io), b9 9 (io), b10 10 (io), b11 11 (io), b12 12 (io), b13 13 (io)
part C pins: Mec1 "Mounting Fixture", Mec2 "Mounting Fixture", Mec3 "Mounting Fixture", Mec4 "Mounting Fixture"
part C text: Mounting; Holes

## Connector 27 Female
designator J?
Connector 27 Female
pins: 1 (io), 2 (io), 3 (io), 4 (io), 5 (io), 6 (io), 7 (io), 8 (io), 9 (io), 10 (io), 11 (io), 12 (io), 13 (io), 14 (io), 15 (io), 16 (io), 17 (io), 18 (io), 19 (io), 20 (io), 21 (io), 22 (io), 23 (io), 24 (in), 25 (in), 26 (in), 27 (in)
1 alternate drawing of the same symbol

## Connector 28 Female
designator J?
Connector 28 Female
pins: 1 (io), 2 (io), 3 (io), 4 (io), 5 (io), 6 (io), 7 (io), 8 (io), 9 (io), 10 (io), 11 (io), 12 (io), 13 (io), 14 (io), 15 (io), 16 (io), 17 (io), 18 (io), 19 (io), 20 (io), 21 (io), 22 (io), 23 (io), 24 (io), 25 (io), 26 (io), 27 (io), 28 (io)
1 alternate drawing of the same symbol

## Connector 28 Male
designator J?
Connector 28 Male
pins: 1 (io), 2 (io), 3 (io), 4 (io), 5 (io), 6 (io), 7 (io), 8 (io), 9 (io), 10 (io), 11 (io), 12 (io), 13 (io), 14 (io), 15 (io), 16 (io), 17 (io), 18 (io), 19 (io), 20 (io), 21 (io), 22 (io), 23 (io), 24 (io), 25 (io), 26 (io), 27 (io), 28 (io)
1 alternate drawing of the same symbol

## Connector 30 Female
designator J?
Connector 30 Female
pins: 1 (io), 2 (io), 3 (io), 4 (io), 5 (io), 6 (io), 7 (io), 8 (io), 9 (io), 10 (io), 11 (io), 12 (io), 13 (io), 14 (io), 15 (io), 16 (io), 17 (io), 18 (io), 19 (io), 20 (io), 21 (io), 22 (io), 23 (io), 24 (io), 25 (io), 26 (io), 27 (io), 28 (io), 29 (io), 30 (io)
1 alternate drawing of the same symbol

## Connector 30 Male
designator J?
Connector 30 Male
pins: 1 (io), 2 (io), 3 (io), 4 (io), 5 (io), 6 (io), 7 (io), 8 (io), 9 (io), 10 (io), 11 (io), 12 (io), 13 (io), 14 (io), 15 (io), 16 (io), 17 (io), 18 (io), 19 (io), 20 (io), 21 (io), 22 (io), 23 (io), 24 (io), 25 (io), 26 (io), 27 (io), 28 (io), 29 (io), 30 (io)
1 alternate drawing of the same symbol

## Connector 30abc Female (3x10)
designator J?
Connector 30abc Female (3x10)
part A pins: a1 (io), a2 (io), a3 (io), a4 (io), a5 (io), a6 (io), a7 (io), a8 (io), a9 (io), a10 (io)
part B pins: b1 (io), b2 (io), b3 (io), b4 (io), b5 (io), b6 (io), b7 (io), b8 (io), b9 (io), b10 (io)
part C pins: c1 (io), c2 (io), c3 (io), c4 (io), c5 (io), c6 (io), c7 (io), c8 (io), c9 (io), c10 (io)
part D pins: MTG1 "Mounting Fixture", MTG2 "Mounting Fixture"
part D text: Mounting; Holes

## Connector 30abc Male (3x10)
designator J?
Connector 30abc Male (3x10)
part A pins: a1 (io), a2 (io), a3 (io), a4 (io), a5 (io), a6 (io), a7 (io), a8 (io), a9 (io), a10 (io)
part B pins: b1 (io), b2 (io), b3 (io), b4 (io), b5 (io), b6 (io), b7 (io), b8 (io), b9 (io), b10 (io)
part C pins: c1 (io), c2 (io), c3 (io), c4 (io), c5 (io), c6 (io), c7 (io), c8 (io), c9 (io), c10 (io)
part D pins: MTG1 "Mounting Fixture", MTG2 "Mounting Fixture"
part D text: Mounting; Holes

## Connector 31 Female
designator J?
Connector 31 Female
pins: 1 (io), 2 (io), 3 (io), 4 (io), 5 (io), 6 (io), 7 (io), 8 (io), 9 (io), 10 (io), 11 (io), 12 (io), 13 (io), 14 (io), 15 (io), 16 (io), 17 (io), 18 (io), 19 (io), 20 (io), 21 (io), 22 (io), 23 (io), 24 (io), 25 (io), 26 (io), 27 (io), 28 (io), 29 (io), 30 (io), 31 (io)

## Connector 31 Male
designator J?
Connector 31 Male
pins: 1 (io), 2 (io), 3 (io), 4 (io), 5 (io), 6 (io), 7 (io), 8 (io), 9 (io), 10 (io), 11 (io), 12 (io), 13 (io), 14 (io), 15 (io), 16 (io), 17 (io), 18 (io), 19 (io), 20 (io), 21 (io), 22 (io), 23 (io), 24 (io), 25 (io), 26 (io), 27 (io), 28 (io), 29 (io), 30 (io), 31 (io)

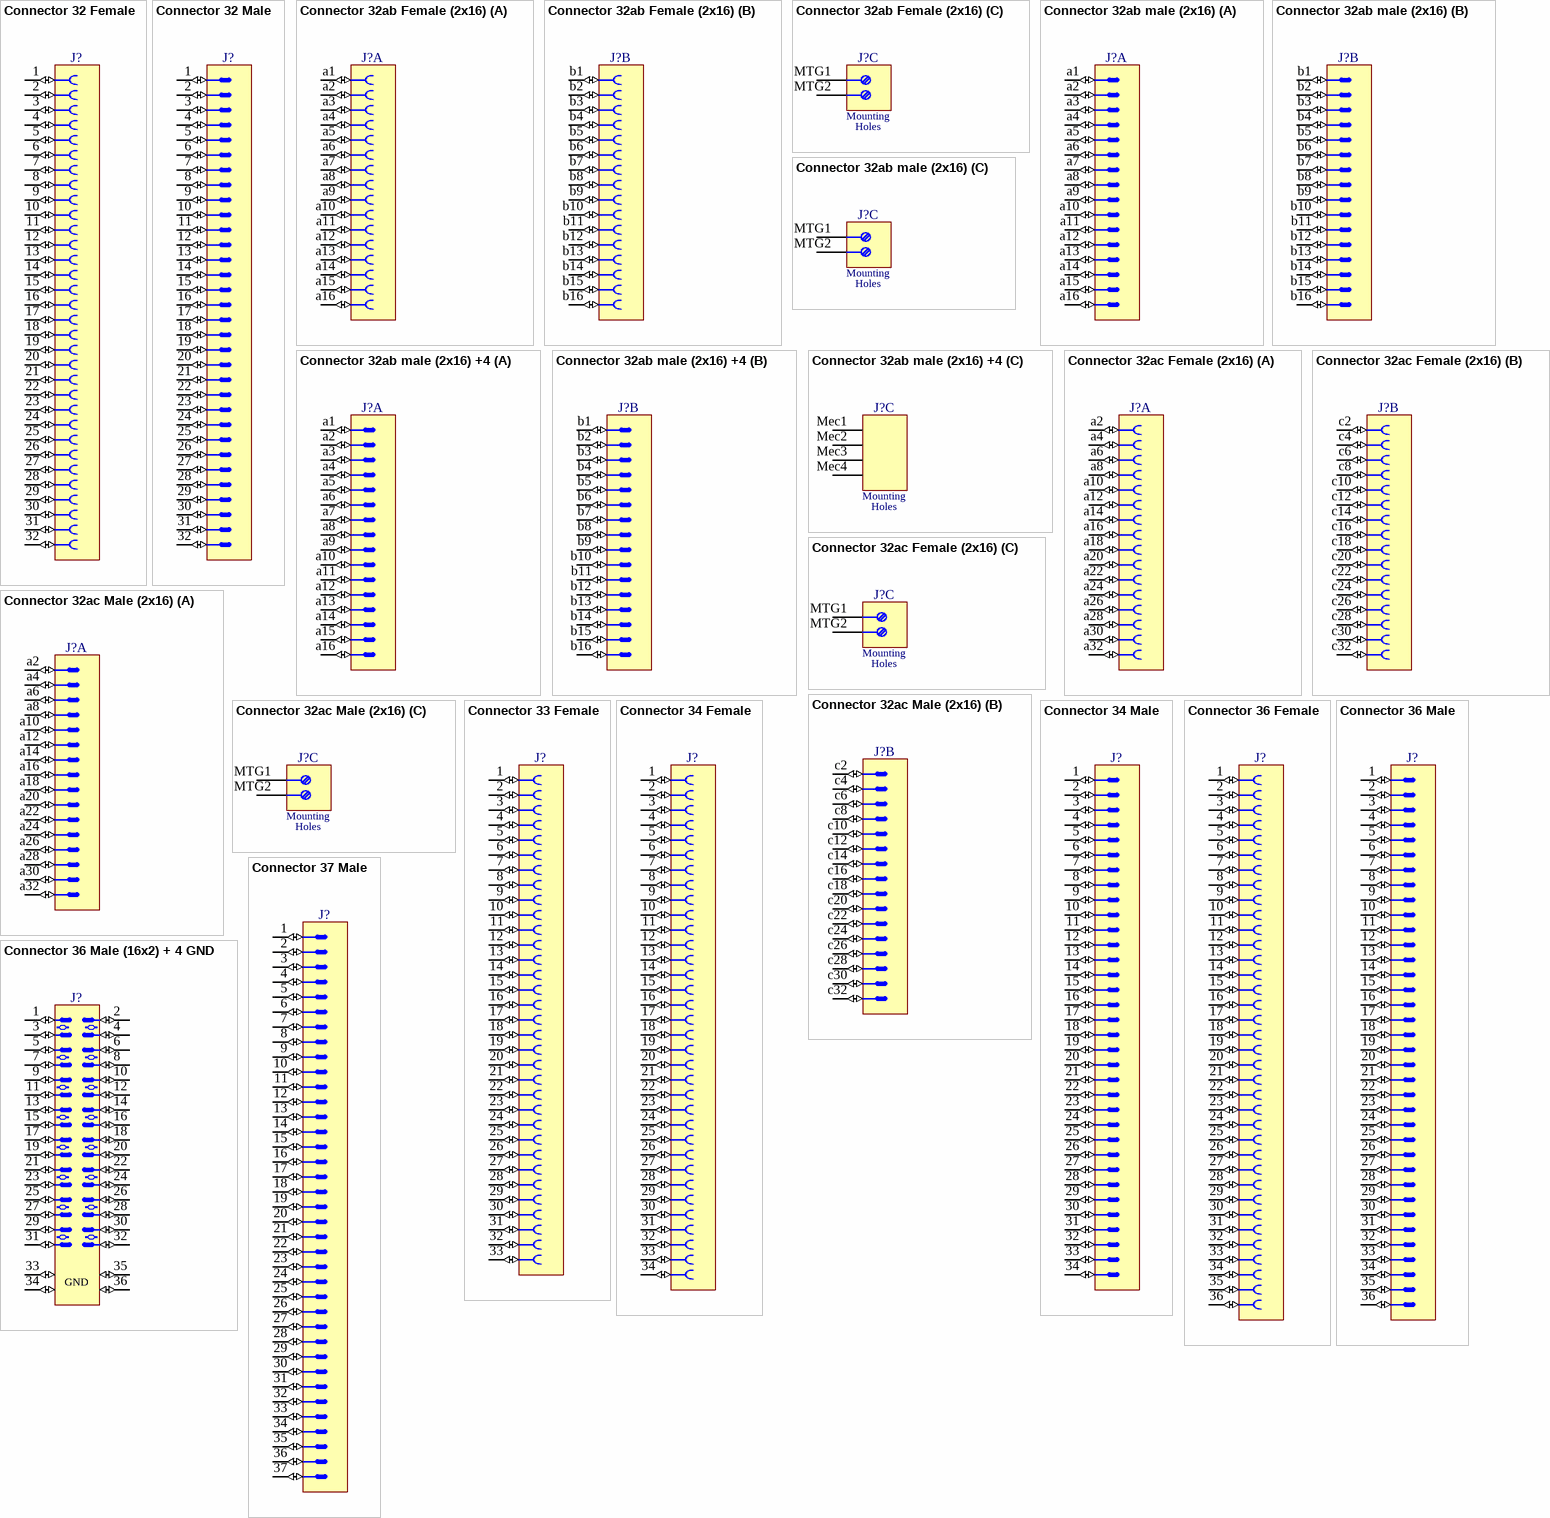
[diagram p7: symbols Connector 32 Female to Connector 37 Male]

## Connector 32 Female
designator J?
Connector 32 Female
pins: 1 (io), 2 (io), 3 (io), 4 (io), 5 (io), 6 (io), 7 (io), 8 (io), 9 (io), 10 (io), 11 (io), 12 (io), 13 (io), 14 (io), 15 (io), 16 (io), 17 (io), 18 (io), 19 (io), 20 (io), 21 (io), 22 (io), 23 (io), 24 (io), 25 (io), 26 (io), 27 (io), 28 (io), 29 (io), 30 (io), 31 (io), 32 (io)
1 alternate drawing of the same symbol

## Connector 32 Male
designator J?
Connector 32 Male
pins: 1 (io), 2 (io), 3 (io), 4 (io), 5 (io), 6 (io), 7 (io), 8 (io), 9 (io), 10 (io), 11 (io), 12 (io), 13 (io), 14 (io), 15 (io), 16 (io), 17 (io), 18 (io), 19 (io), 20 (io), 21 (io), 22 (io), 23 (io), 24 (io), 25 (io), 26 (io), 27 (io), 28 (io), 29 (io), 30 (io), 31 (io), 32 (io)
1 alternate drawing of the same symbol

## Connector 32ab Female (2x16)
designator J?
Connector 32ab Female (2x16)
part A pins: a1 (io), a2 (io), a3 (io), a4 (io), a5 (io), a6 (io), a7 (io), a8 (io), a9 (io), a10 (io), a11 (io), a12 (io), a13 (io), a14 (io), a15 (io), a16 (io)
part B pins: b1 (io), b2 (io), b3 (io), b4 (io), b5 (io), b6 (io), b7 (io), b8 (io), b9 (io), b10 (io), b11 (io), b12 (io), b13 (io), b14 (io), b15 (io), b16 (io)
part C pins: MTG1 "Mounting Fixture", MTG2 "Mounting Fixture"
part C text: Mounting; Holes

## Connector 32ab male (2x16)
designator J?
Connector 32ab male (2x16)
part A pins: a1 (io), a2 (io), a3 (io), a4 (io), a5 (io), a6 (io), a7 (io), a8 (io), a9 (io), a10 (io), a11 (io), a12 (io), a13 (io), a14 (io), a15 (io), a16 (io)
part B pins: b1 (io), b2 (io), b3 (io), b4 (io), b5 (io), b6 (io), b7 (io), b8 (io), b9 (io), b10 (io), b11 (io), b12 (io), b13 (io), b14 (io), b15 (io), b16 (io)
part C pins: MTG1 "Mounting Fixture", MTG2 "Mounting Fixture"
part C text: Mounting; Holes

## Connector 32ab male (2x16) +4
designator J?
Connector 32ab male (2x16)
part A pins: a1 (io), a2 (io), a3 (io), a4 (io), a5 (io), a6 (io), a7 (io), a8 (io), a9 (io), a10 (io), a11 (io), a12 (io), a13 (io), a14 (io), a15 (io), a16 (io)
part B pins: b1 (io), b2 (io), b3 (io), b4 (io), b5 (io), b6 (io), b7 (io), b8 (io), b9 (io), b10 (io), b11 (io), b12 (io), b13 (io), b14 (io), b15 (io), b16 (io)
part C pins: Mec1 "Mounting Fixture", Mec2 "Mounting Fixture", Mec3 "Mounting Fixture", Mec4 "Mounting Fixture"
part C text: Mounting; Holes

## Connector 32ac Female (2x16)
designator J?
Connector 32ac Female (2x16)
part A pins: a2 (io), a4 (io), a6 (io), a8 (io), a10 (io), a12 (io), a14 (io), a16 (io), a18 (io), a20 (io), a22 (io), a24 (io), a26 (io), a28 (io), a30 (io), a32 (io)
part B pins: c2 (io), c4 (io), c6 (io), c8 (io), c10 (io), c12 (io), c14 (io), c16 (io), c18 (io), c20 (io), c22 (io), c24 (io), c26 (io), c28 (io), c30 (io), c32 (io)
part C pins: MTG1 "Mounting Fixture", MTG2 "Mounting Fixture"
part C text: Mounting; Holes

## Connector 32ac Male (2x16)
designator J?
Connector 32ac Male (2x16)
part A pins: a2 (io), a4 (io), a6 (io), a8 (io), a10 (io), a12 (io), a14 (io), a16 (io), a18 (io), a20 (io), a22 (io), a24 (io), a26 (io), a28 (io), a30 (io), a32 (io)
part B pins: c2 (io), c4 (io), c6 (io), c8 (io), c10 (io), c12 (io), c14 (io), c16 (io), c18 (io), c20 (io), c22 (io), c24 (io), c26 (io), c28 (io), c30 (io), c32 (io)
part C pins: MTG1 "Mounting Fixture", MTG2 "Mounting Fixture"
part C text: Mounting; Holes

## Connector 33 Female
designator J?
Connector 33 Female
pins: 1 (io), 2 (io), 3 (io), 4 (io), 5 (io), 6 (io), 7 (io), 8 (io), 9 (io), 10 (io), 11 (io), 12 (io), 13 (io), 14 (io), 15 (io), 16 (io), 17 (io), 18 (io), 19 (io), 20 (io), 21 (io), 22 (io), 23 (io), 24 (io), 25 (io), 26 (io), 27 (io), 28 (io), 29 (io), 30 (io), 31 (io), 32 (io), 33 (io)
1 alternate drawing of the same symbol

## Connector 34 Female
designator J?
Connector 34 Female
pins: 1 (io), 2 (io), 3 (io), 4 (io), 5 (io), 6 (io), 7 (io), 8 (io), 9 (io), 10 (io), 11 (io), 12 (io), 13 (io), 14 (io), 15 (io), 16 (io), 17 (io), 18 (io), 19 (io), 20 (io), 21 (io), 22 (io), 23 (io), 24 (io), 25 (io), 26 (io), 27 (io), 28 (io), 29 (io), 30 (io), 31 (io), 32 (io), 33 (io), 34 (io)
1 alternate drawing of the same symbol

## Connector 34 Male
designator J?
Connector 34 Male
pins: 1 (io), 2 (io), 3 (io), 4 (io), 5 (io), 6 (io), 7 (io), 8 (io), 9 (io), 10 (io), 11 (io), 12 (io), 13 (io), 14 (io), 15 (io), 16 (io), 17 (io), 18 (io), 19 (io), 20 (io), 21 (io), 22 (io), 23 (io), 24 (io), 25 (io), 26 (io), 27 (io), 28 (io), 29 (io), 30 (io), 31 (io), 32 (io), 33 (io), 34 (io)
1 alternate drawing of the same symbol

## Connector 36 Female
designator J?
Connector 36 Female
pins: 1 (io), 2 (io), 3 (io), 4 (io), 5 (io), 6 (io), 7 (io), 8 (io), 9 (io), 10 (io), 11 (io), 12 (io), 13 (io), 14 (io), 15 (io), 16 (io), 17 (io), 18 (io), 19 (io), 20 (io), 21 (io), 22 (io), 23 (io), 24 (io), 25 (io), 26 (io), 27 (io), 28 (io), 29 (io), 30 (io), 31 (io), 32 (io), 33 (io), 34 (io), 35 (io), 36 (io)
1 alternate drawing of the same symbol

## Connector 36 Male
designator J?
Connector 36 Male
pins: 1 (io), 2 (io), 3 (io), 4 (io), 5 (io), 6 (io), 7 (io), 8 (io), 9 (io), 10 (io), 11 (io), 12 (io), 13 (io), 14 (io), 15 (io), 16 (io), 17 (io), 18 (io), 19 (io), 20 (io), 21 (io), 22 (io), 23 (io), 24 (io), 25 (io), 26 (io), 27 (io), 28 (io), 29 (io), 30 (io), 31 (io), 32 (io), 33 (io), 34 (io), 35 (io), 36 (io)
1 alternate drawing of the same symbol

## Connector 36 Male (16x2) + 4 GND
designator J?
Connector 36 Male (16x2) + 4 GND
pins: 1 (io), 2 (io), 3 (io), 4 (io), 5 (io), 6 (io), 7 (io), 8 (io), 9 (io), 10 (io), 11 (io), 12 (io), 13 (io), 14 (io), 15 (io), 16 (io), 17 (io), 18 (io), 19 (io), 20 (io), 21 (io), 22 (io), 23 (io), 24 (io), 25 (io), 26 (io), 27 (io), 28 (io), 29 (io), 30 (io), 31 (io), 32 (io), 33 GND (io), 34 GND (io), 35 GND (io), 36 GND (io)

## Connector 37 Male
designator J?
Connector 37 Male
pins: 1 (io), 2 (io), 3 (io), 4 (io), 5 (io), 6 (io), 7 (io), 8 (io), 9 (io), 10 (io), 11 (io), 12 (io), 13 (io), 14 (io), 15 (io), 16 (io), 17 (io), 18 (io), 19 (io), 20 (io), 21 (io), 22 (io), 23 (io), 24 (io), 25 (io), 26 (io), 27 (io), 28 (io), 29 (io), 30 (io), 31 (io), 32 (io), 33 (io), 34 (io), 35 (io), 36 (io), 37 (io)
1 alternate drawing of the same symbol

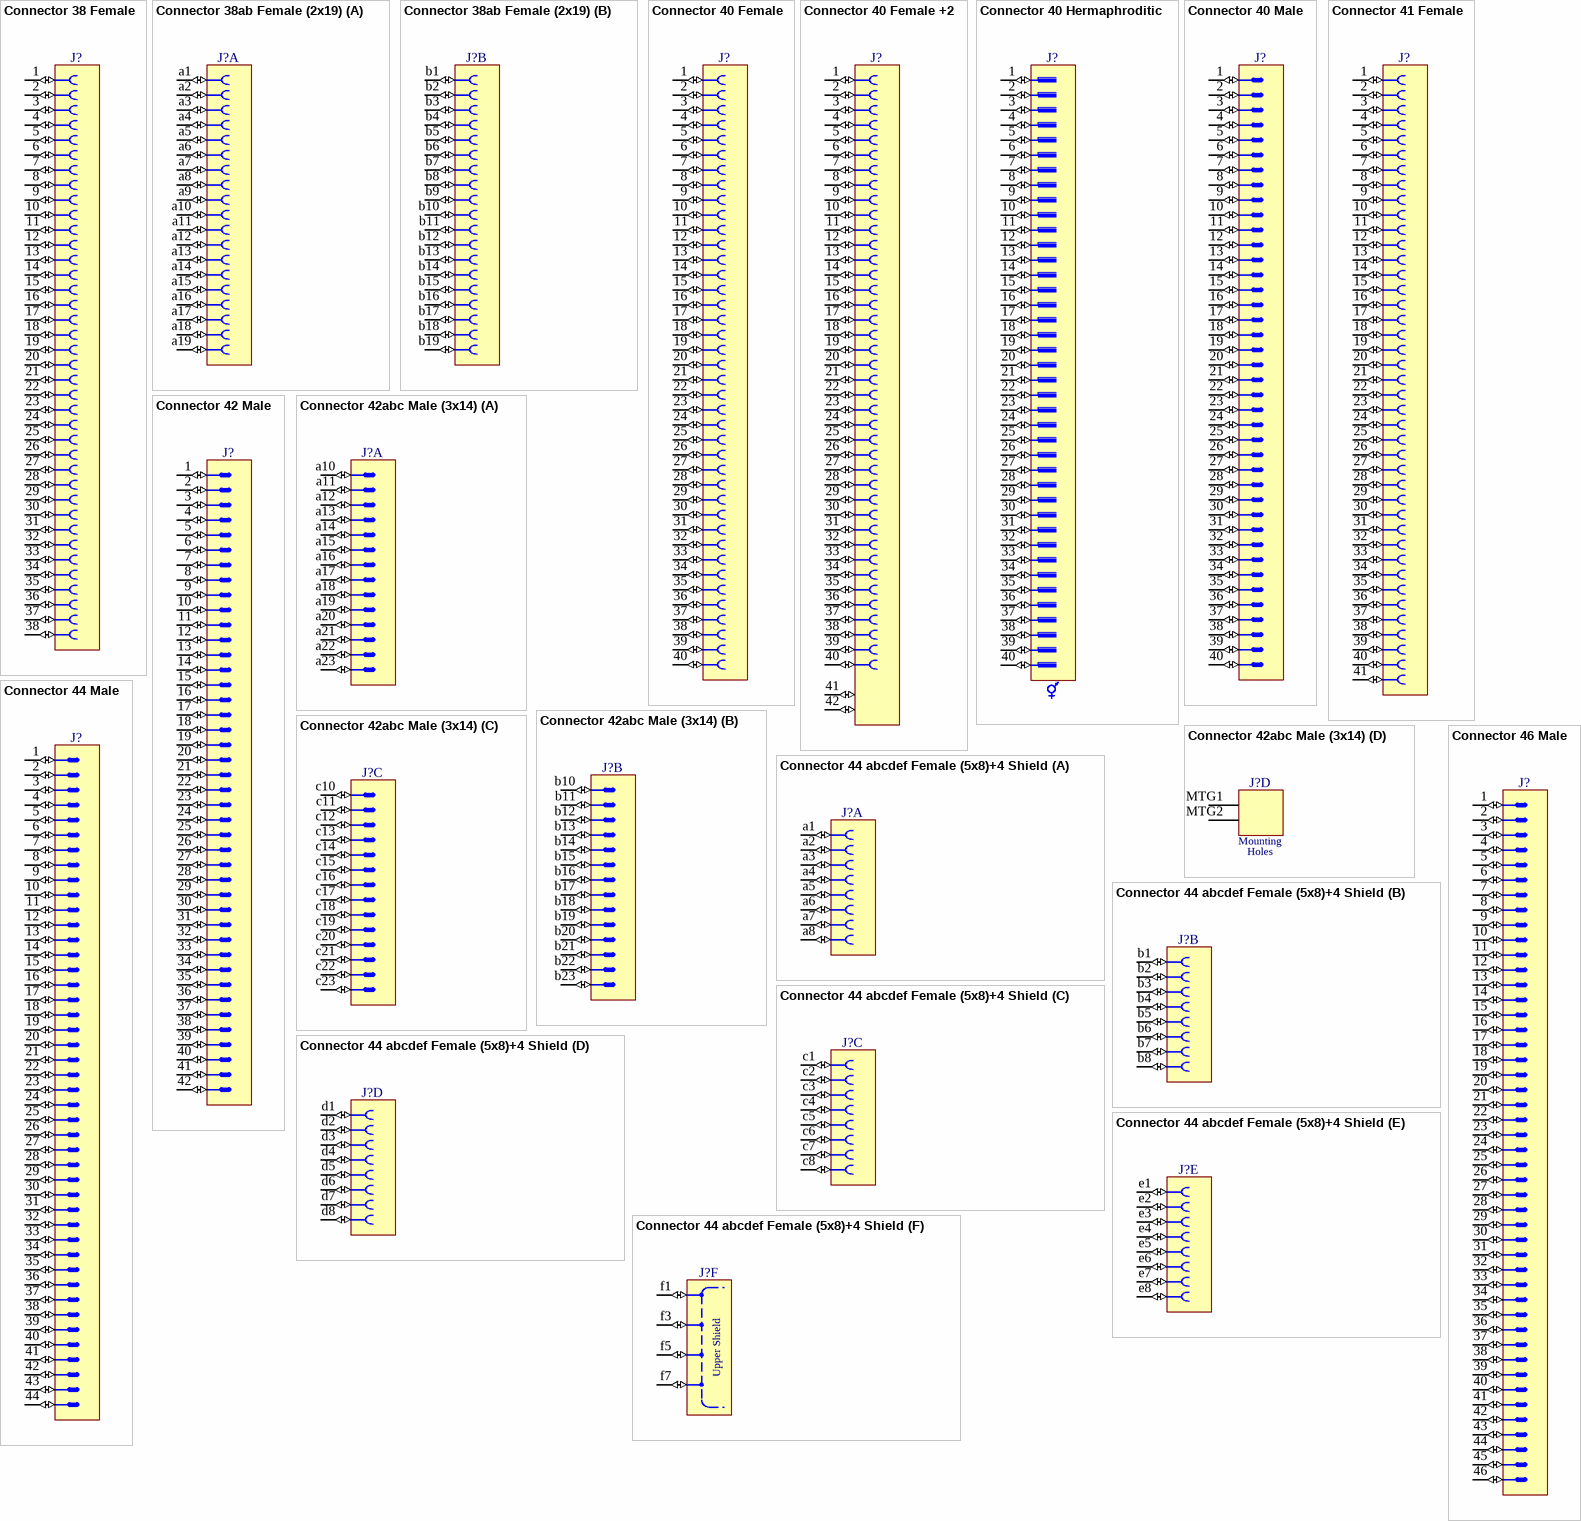
[diagram p8: symbols Connector 38 Female to Connector 46 Male]

## Connector 38 Female
designator J?
Connector 38 Female
pins: 1 (io), 2 (io), 3 (io), 4 (io), 5 (io), 6 (io), 7 (io), 8 (io), 9 (io), 10 (io), 11 (io), 12 (io), 13 (io), 14 (io), 15 (io), 16 (io), 17 (io), 18 (io), 19 (io), 20 (io), 21 (io), 22 (io), 23 (io), 24 (io), 25 (io), 26 (io), 27 (io), 28 (io), 29 (io), 30 (io), 31 (io), 32 (io), 33 (io), 34 (io), 35 (io), 36 (io), 37 (io), 38 (io)
1 alternate drawing of the same symbol

## Connector 38ab Female (2x19)
designator J?
Connector 38ab Female (2x19)
part A pins: a1 1 (io), a2 2 (io), a3 3 (io), a4 4 (io), a5 5 (io), a6 6 (io), a7 7 (io), a8 8 (io), a9 9 (io), a10 10 (io), a11 11 (io), a12 12 (io), a13 13 (io), a14 14 (io), a15 15 (io), a16 16 (io), a17 17 (io), a18 18 (io), a19 19 (io)
part B pins: b1 1 (io), b2 2 (io), b3 3 (io), b4 4 (io), b5 5 (io), b6 6 (io), b7 7 (io), b8 8 (io), b9 9 (io), b10 10 (io), b11 11 (io), b12 12 (io), b13 13 (io), b14 14 (io), b15 15 (io), b16 16 (io), b17 17 (io), b18 18 (io), b19 19 (io)

## Connector 40 Female
designator J?
Connector 40 Female
pins: 1 (io), 2 (io), 3 (io), 4 (io), 5 (io), 6 (io), 7 (io), 8 (io), 9 (io), 10 (io), 11 (io), 12 (io), 13 (io), 14 (io), 15 (io), 16 (io), 17 (io), 18 (io), 19 (io), 20 (io), 21 (io), 22 (io), 23 (io), 24 (io), 25 (io), 26 (io), 27 (io), 28 (io), 29 (io), 30 (io), 31 (io), 32 (io), 33 (io), 34 (io), 35 (io), 36 (io), 37 (io), 38 (io), 39 (io), 40 (io)
1 alternate drawing of the same symbol

## Connector 40 Female +2
designator J?
Connector 40 Female +2
pins: 1 (io), 2 (io), 3 (io), 4 (io), 5 (io), 6 (io), 7 (io), 8 (io), 9 (io), 10 (io), 11 (io), 12 (io), 13 (io), 14 (io), 15 (io), 16 (io), 17 (io), 18 (io), 19 (io), 20 (io), 21 (io), 22 (io), 23 (io), 24 (io), 25 (io), 26 (io), 27 (io), 28 (io), 29 (io), 30 (io), 31 (io), 32 (io), 33 (io), 34 (io), 35 (io), 36 (io), 37 (io), 38 (io), 39 (io), 40 (io), 41 (io), 42 (io)
1 alternate drawing of the same symbol

## Connector 40 Hermaphroditic
designator J?
Connector 40 Hermaphroditic
pins: 1 (io), 2 (io), 3 (io), 4 (io), 5 (io), 6 (io), 7 (io), 8 (io), 9 (io), 10 (io), 11 (io), 12 (io), 13 (io), 14 (io), 15 (io), 16 (io), 17 (io), 18 (io), 19 (io), 20 (io), 21 (io), 22 (io), 23 (io), 24 (io), 25 (io), 26 (io), 27 (io), 28 (io), 29 (io), 30 (io), 31 (io), 32 (io), 33 (io), 34 (io), 35 (io), 36 (io), 37 (io), 38 (io), 39 (io), 40 (io)
1 alternate drawing of the same symbol

## Connector 40 Male
designator J?
Connector 40 Male
pins: 1 (io), 2 (io), 3 (io), 4 (io), 5 (io), 6 (io), 7 (io), 8 (io), 9 (io), 10 (io), 11 (io), 12 (io), 13 (io), 14 (io), 15 (io), 16 (io), 17 (io), 18 (io), 19 (io), 20 (io), 21 (io), 22 (io), 23 (io), 24 (io), 25 (io), 26 (io), 27 (io), 28 (io), 29 (io), 30 (io), 31 (io), 32 (io), 33 (io), 34 (io), 35 (io), 36 (io), 37 (io), 38 (io), 39 (io), 40 (io)
1 alternate drawing of the same symbol

## Connector 41 Female
designator J?
Connector 41 Female
pins: 1 (io), 2 (io), 3 (io), 4 (io), 5 (io), 6 (io), 7 (io), 8 (io), 9 (io), 10 (io), 11 (io), 12 (io), 13 (io), 14 (io), 15 (io), 16 (io), 17 (io), 18 (io), 19 (io), 20 (io), 21 (io), 22 (io), 23 (io), 24 (io), 25 (io), 26 (io), 27 (io), 28 (io), 29 (io), 30 (io), 31 (io), 32 (io), 33 (io), 34 (io), 35 (io), 36 (io), 37 (io), 38 (io), 39 (io), 40 (io), 41 (io)
1 alternate drawing of the same symbol

## Connector 42 Male
designator J?
Connector 42 Male
pins: 1 (io), 2 (io), 3 (io), 4 (io), 5 (io), 6 (io), 7 (io), 8 (io), 9 (io), 10 (io), 11 (io), 12 (io), 13 (io), 14 (io), 15 (io), 16 (io), 17 (io), 18 (io), 19 (io), 20 (io), 21 (io), 22 (io), 23 (io), 24 (io), 25 (io), 26 (io), 27 (io), 28 (io), 29 (io), 30 (io), 31 (io), 32 (io), 33 (io), 34 (io), 35 (io), 36 (io), 37 (io), 38 (io), 39 (io), 40 (io), 41 (io), 42 (io)
1 alternate drawing of the same symbol

## Connector 42abc Male (3x14)
designator J?
DIN 41612, Type M, 42 + 6 Special Contacts, Male, Right Angle Connector
part A pins: a10 (io), a11 (io), a12 (io), a13 (io), a14 (io), a15 (io), a16 (io), a17 (io), a18 (io), a19 (io), a20 (io), a21 (io), a22 (io), a23 (io)
part B pins: b10 (io), b11 (io), b12 (io), b13 (io), b14 (io), b15 (io), b16 (io), b17 (io), b18 (io), b19 (io), b20 (io), b21 (io), b22 (io), b23 (io)
part C pins: c10 (io), c11 (io), c12 (io), c13 (io), c14 (io), c15 (io), c16 (io), c17 (io), c18 (io), c19 (io), c20 (io), c21 (io), c22 (io), c23 (io)
part D pins: MTG1 "Mounting Fixture", MTG2 "Mounting Fixture"
part D text: Mounting; Holes

## Connector 44 abcdef Female (5x8)+4 Shield
designator J?
40 Contacts, 5 Rows (a,b,c,d,e) of 8 positions + 4 Shield Contacts, Pitch 2 mm,  Press-Fit, Right Angle Ermet B8 CompactPCI Express Female Connector
part A pins: a1 (io), a2 (io), a3 (io), a4 (io), a5 (io), a6 (io), a7 (io), a8 (io)
part B pins: b1 (io), b2 (io), b3 (io), b4 (io), b5 (io), b6 (io), b7 (io), b8 (io)
part C pins: c1 (io), c2 (io), c3 (io), c4 (io), c5 (io), c6 (io), c7 (io), c8 (io)
part D pins: d1 (io), d2 (io), d3 (io), d4 (io), d5 (io), d6 (io), d7 (io), d8 (io)
part E pins: e1 (io), e2 (io), e3 (io), e4 (io), e5 (io), e6 (io), e7 (io), e8 (io)
part F pins: f1 (io), f3 (io), f5 (io), f7 (io)
part F text: Upper Shield